# Altium integrated library Actel ProASIC3.IntLib: 465 symbols (part 1 of 68)
Pins are listed as number, name and electrical type; pins without a type are passive.

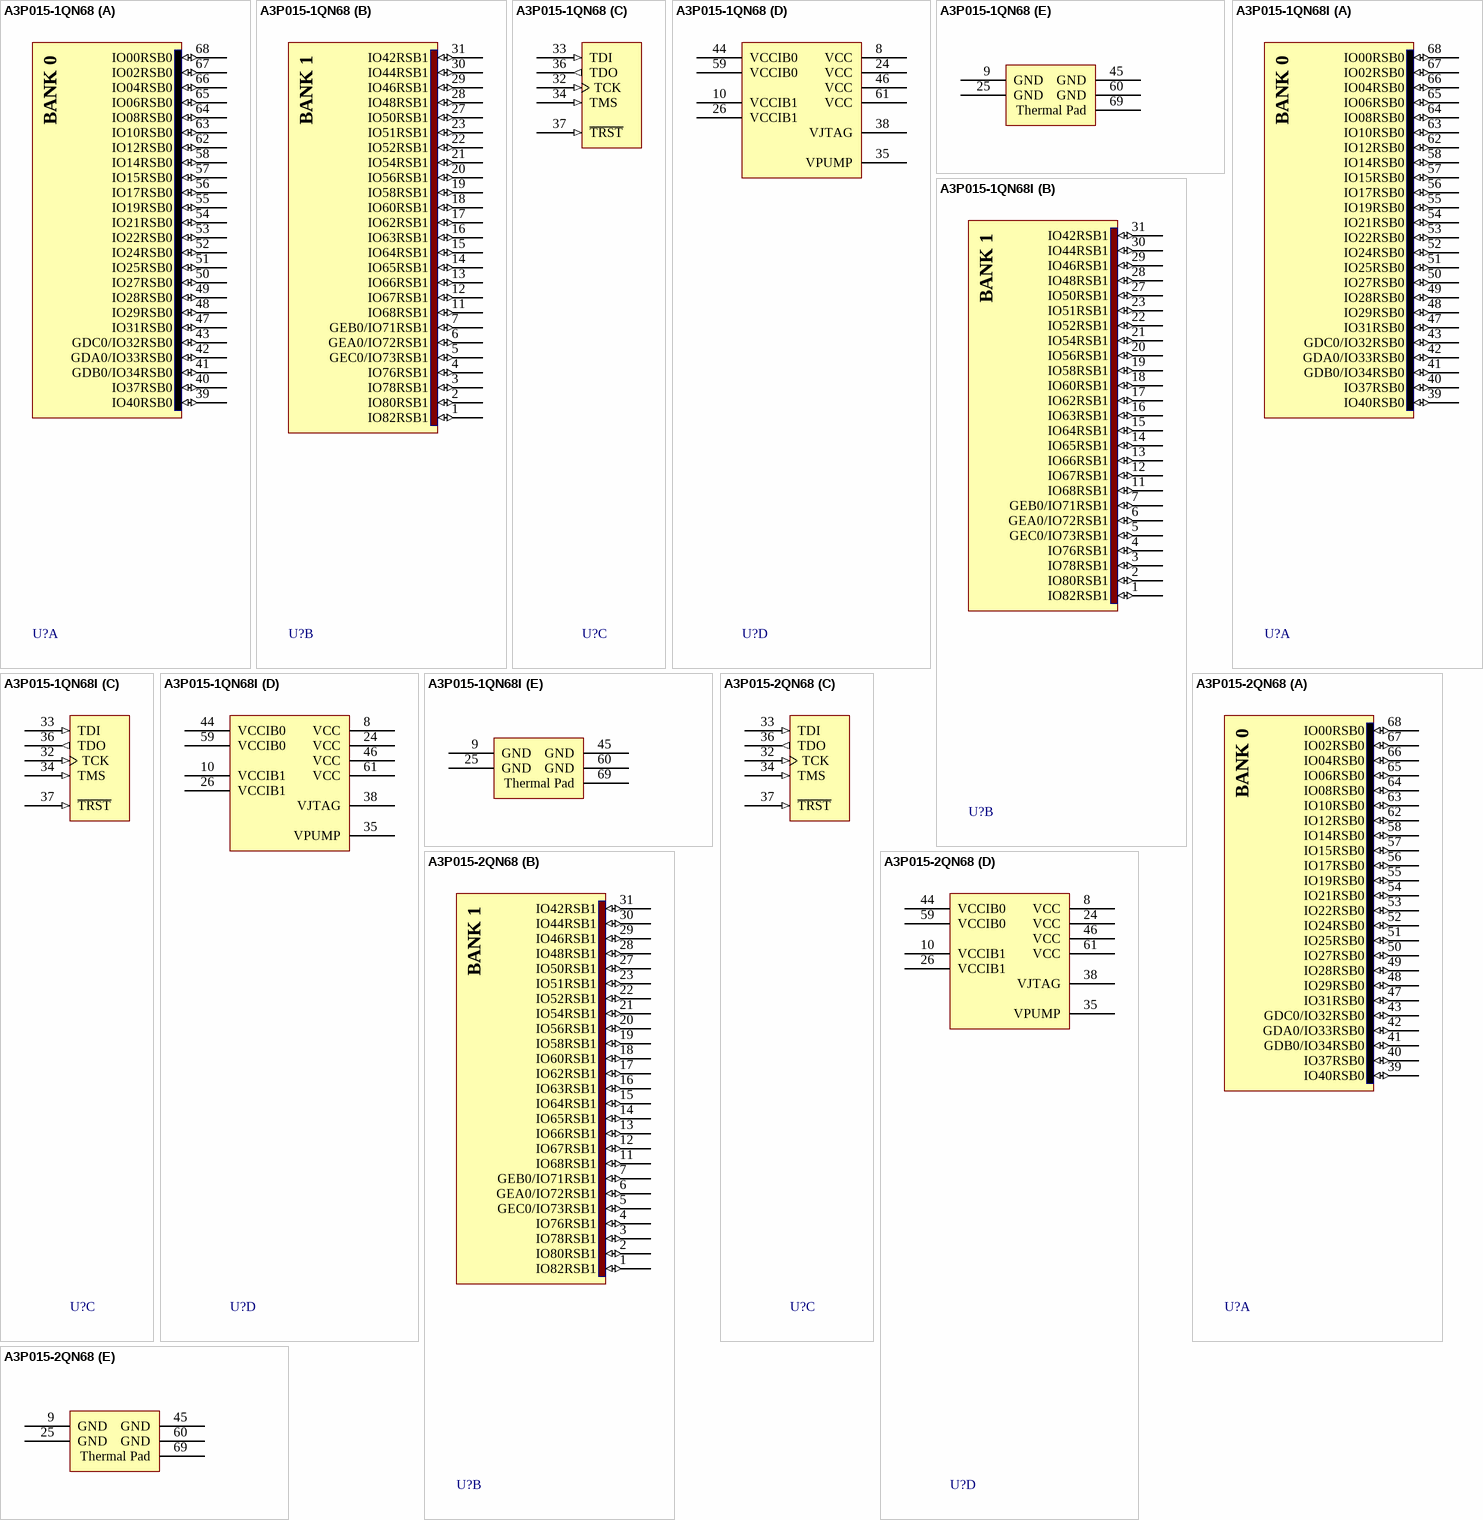
[diagram p0: symbols A3P015-1QN68 to A3P015-2QN68]

## A3P015-1QN68
designator U?
ProASIC3 Flash Family FPGA, 49 User IOs, 15K System Gates, 1 Kbit ProASIC3 Flash ROM, 68-Pin QFN, Commercial Grade; DatasheetVersion: v1.3, Oct-2009; PackageVersion: rev40, Jun-2011; PackageReference: QN68; PackageDescription: 68-Pin Quad Flat No-Lead 0.4 mm Pitch (QN68); Code_JEDEC: MO-220-VLLE-1; ComponentLink1Description: Manufacturer URL; ComponentLink1URL: http://www.actel.com/; ComponentLink2Description: ProASIC3 Datasheet; ComponentLink2URL: http://www.actel.com/documents/PA3_DS.pdf; ComponentLink3Description: Package Mechanical Drawings; ComponentLink3URL: http://www.actel.com/documents/PckgMechDrwngs.pdf; ComponentLink4Description: ProASIC3 Documents; ComponentLink4URL: http://www.actel.com/products/pa3/docs.aspx
footprint QN68_N (QFN, 68-Leads, Body 8x8mm, Pitch 0.4mm, Thermal Pad 3.1x3.1mm, IPC Medium Density)
footprint QN68_L (QFN, 68-Leads, Body 8x8mm, Pitch 0.4mm, Thermal Pad 3.1x3.1mm, IPC High Density)
footprint QN68_M (QFN, 68-Leads, Body 8x8mm, Pitch 0.4mm, Thermal Pad 3.1x3.1mm, IPC Low Density)
part A pins: 39 IO40RSB0 (io), 40 IO37RSB0 (io), 41 GDB0/IO34RSB0 (io), 42 GDA0/IO33RSB0 (io), 43 GDC0/IO32RSB0 (io), 47 IO31RSB0 (io), 48 IO29RSB0 (io), 49 IO28RSB0 (io), 50 IO27RSB0 (io), 51 IO25RSB0 (io), 52 IO24RSB0 (io), 53 IO22RSB0 (io), 54 IO21RSB0 (io), 55 IO19RSB0 (io), 56 IO17RSB0 (io), 57 IO15RSB0 (io), 58 IO14RSB0 (io), 62 IO12RSB0 (io), 63 IO10RSB0 (io), 64 IO08RSB0 (io), 65 IO06RSB0 (io), 66 IO04RSB0 (io), 67 IO02RSB0 (io), 68 IO00RSB0 (io)
part B pins: 1 IO82RSB1 (io), 2 IO80RSB1 (io), 3 IO78RSB1 (io), 4 IO76RSB1 (io), 5 GEC0/IO73RSB1 (io), 6 GEA0/IO72RSB1 (io), 7 GEB0/IO71RSB1 (io), 11 IO68RSB1 (io), 12 IO67RSB1 (io), 13 IO66RSB1 (io), 14 IO65RSB1 (io), 15 IO64RSB1 (io), 16 IO63RSB1 (io), 17 IO62RSB1 (io), 18 IO60RSB1 (io), 19 IO58RSB1 (io), 20 IO56RSB1 (io), 21 IO54RSB1 (io), 22 IO52RSB1 (io), 23 IO51RSB1 (io), 27 IO50RSB1 (io), 28 IO48RSB1 (io), 29 IO46RSB1 (io), 30 IO44RSB1 (io), 31 IO42RSB1 (io)
part C pins: 32 TCK (in), 33 TDI (in), 34 TMS (in), 36 TDO (out), 37 ~{TRST} (in)
part D pins: 8 VCC (power), 10 VCCIB1 (power), 24 VCC (power), 26 VCCIB1 (power), 35 VPUMP (power), 38 VJTAG (power), 44 VCCIB0 (power), 46 VCC (power), 59 VCCIB0 (power), 61 VCC (power)
part E pins: 9 GND (power), 25 GND (power), 45 GND (power), 60 GND (power), 69 Thermal Pad (power)
part A text: BANK 0
part B text: BANK 1

## A3P015-1QN68I
designator U?
ProASIC3 Flash Family FPGA, 49 User IOs, 15K System Gates, 1 Kbit ProASIC3 Flash ROM, 68-Pin QFN, Industrial Grade; DatasheetVersion: v1.3, Oct-2009; PackageVersion: rev40, Jun-2011; PackageReference: QN68; PackageDescription: 68-Pin Quad Flat No-Lead 0.4 mm Pitch (QN68); Code_JEDEC: MO-220-VLLE-1; ComponentLink1Description: Manufacturer URL; ComponentLink1URL: http://www.actel.com/; ComponentLink2Description: ProASIC3 Datasheet; ComponentLink2URL: http://www.actel.com/documents/PA3_DS.pdf; ComponentLink3Description: Package Mechanical Drawings; ComponentLink3URL: http://www.actel.com/documents/PckgMechDrwngs.pdf; ComponentLink4Description: ProASIC3 Documents; ComponentLink4URL: http://www.actel.com/products/pa3/docs.aspx
footprint QN68_N (QFN, 68-Leads, Body 8x8mm, Pitch 0.4mm, Thermal Pad 3.1x3.1mm, IPC Medium Density)
footprint QN68_L (QFN, 68-Leads, Body 8x8mm, Pitch 0.4mm, Thermal Pad 3.1x3.1mm, IPC High Density)
footprint QN68_M (QFN, 68-Leads, Body 8x8mm, Pitch 0.4mm, Thermal Pad 3.1x3.1mm, IPC Low Density)
part A pins: 39 IO40RSB0 (io), 40 IO37RSB0 (io), 41 GDB0/IO34RSB0 (io), 42 GDA0/IO33RSB0 (io), 43 GDC0/IO32RSB0 (io), 47 IO31RSB0 (io), 48 IO29RSB0 (io), 49 IO28RSB0 (io), 50 IO27RSB0 (io), 51 IO25RSB0 (io), 52 IO24RSB0 (io), 53 IO22RSB0 (io), 54 IO21RSB0 (io), 55 IO19RSB0 (io), 56 IO17RSB0 (io), 57 IO15RSB0 (io), 58 IO14RSB0 (io), 62 IO12RSB0 (io), 63 IO10RSB0 (io), 64 IO08RSB0 (io), 65 IO06RSB0 (io), 66 IO04RSB0 (io), 67 IO02RSB0 (io), 68 IO00RSB0 (io)
part B pins: 1 IO82RSB1 (io), 2 IO80RSB1 (io), 3 IO78RSB1 (io), 4 IO76RSB1 (io), 5 GEC0/IO73RSB1 (io), 6 GEA0/IO72RSB1 (io), 7 GEB0/IO71RSB1 (io), 11 IO68RSB1 (io), 12 IO67RSB1 (io), 13 IO66RSB1 (io), 14 IO65RSB1 (io), 15 IO64RSB1 (io), 16 IO63RSB1 (io), 17 IO62RSB1 (io), 18 IO60RSB1 (io), 19 IO58RSB1 (io), 20 IO56RSB1 (io), 21 IO54RSB1 (io), 22 IO52RSB1 (io), 23 IO51RSB1 (io), 27 IO50RSB1 (io), 28 IO48RSB1 (io), 29 IO46RSB1 (io), 30 IO44RSB1 (io), 31 IO42RSB1 (io)
part C pins: 32 TCK (in), 33 TDI (in), 34 TMS (in), 36 TDO (out), 37 ~{TRST} (in)
part D pins: 8 VCC (power), 10 VCCIB1 (power), 24 VCC (power), 26 VCCIB1 (power), 35 VPUMP (power), 38 VJTAG (power), 44 VCCIB0 (power), 46 VCC (power), 59 VCCIB0 (power), 61 VCC (power)
part E pins: 9 GND (power), 25 GND (power), 45 GND (power), 60 GND (power), 69 Thermal Pad (power)
part A text: BANK 0
part B text: BANK 1

## A3P015-2QN68
designator U?
ProASIC3 Flash Family FPGA, 49 User IOs, 15K System Gates, 1 Kbit ProASIC3 Flash ROM, 68-Pin QFN, Commercial Grade; DatasheetVersion: v1.3, Oct-2009; PackageVersion: rev40, Jun-2011; PackageReference: QN68; PackageDescription: 68-Pin Quad Flat No-Lead 0.4 mm Pitch (QN68); Code_JEDEC: MO-220-VLLE-1; ComponentLink1Description: Manufacturer URL; ComponentLink1URL: http://www.actel.com/; ComponentLink2Description: ProASIC3 Datasheet; ComponentLink2URL: http://www.actel.com/documents/PA3_DS.pdf; ComponentLink3Description: Package Mechanical Drawings; ComponentLink3URL: http://www.actel.com/documents/PckgMechDrwngs.pdf; ComponentLink4Description: ProASIC3 Documents; ComponentLink4URL: http://www.actel.com/products/pa3/docs.aspx
footprint QN68_N (QFN, 68-Leads, Body 8x8mm, Pitch 0.4mm, Thermal Pad 3.1x3.1mm, IPC Medium Density)
footprint QN68_L (QFN, 68-Leads, Body 8x8mm, Pitch 0.4mm, Thermal Pad 3.1x3.1mm, IPC High Density)
footprint QN68_M (QFN, 68-Leads, Body 8x8mm, Pitch 0.4mm, Thermal Pad 3.1x3.1mm, IPC Low Density)
part A pins: 39 IO40RSB0 (io), 40 IO37RSB0 (io), 41 GDB0/IO34RSB0 (io), 42 GDA0/IO33RSB0 (io), 43 GDC0/IO32RSB0 (io), 47 IO31RSB0 (io), 48 IO29RSB0 (io), 49 IO28RSB0 (io), 50 IO27RSB0 (io), 51 IO25RSB0 (io), 52 IO24RSB0 (io), 53 IO22RSB0 (io), 54 IO21RSB0 (io), 55 IO19RSB0 (io), 56 IO17RSB0 (io), 57 IO15RSB0 (io), 58 IO14RSB0 (io), 62 IO12RSB0 (io), 63 IO10RSB0 (io), 64 IO08RSB0 (io), 65 IO06RSB0 (io), 66 IO04RSB0 (io), 67 IO02RSB0 (io), 68 IO00RSB0 (io)
part B pins: 1 IO82RSB1 (io), 2 IO80RSB1 (io), 3 IO78RSB1 (io), 4 IO76RSB1 (io), 5 GEC0/IO73RSB1 (io), 6 GEA0/IO72RSB1 (io), 7 GEB0/IO71RSB1 (io), 11 IO68RSB1 (io), 12 IO67RSB1 (io), 13 IO66RSB1 (io), 14 IO65RSB1 (io), 15 IO64RSB1 (io), 16 IO63RSB1 (io), 17 IO62RSB1 (io), 18 IO60RSB1 (io), 19 IO58RSB1 (io), 20 IO56RSB1 (io), 21 IO54RSB1 (io), 22 IO52RSB1 (io), 23 IO51RSB1 (io), 27 IO50RSB1 (io), 28 IO48RSB1 (io), 29 IO46RSB1 (io), 30 IO44RSB1 (io), 31 IO42RSB1 (io)
part C pins: 32 TCK (in), 33 TDI (in), 34 TMS (in), 36 TDO (out), 37 ~{TRST} (in)
part D pins: 8 VCC (power), 10 VCCIB1 (power), 24 VCC (power), 26 VCCIB1 (power), 35 VPUMP (power), 38 VJTAG (power), 44 VCCIB0 (power), 46 VCC (power), 59 VCCIB0 (power), 61 VCC (power)
part E pins: 9 GND (power), 25 GND (power), 45 GND (power), 60 GND (power), 69 Thermal Pad (power)
part A text: BANK 0
part B text: BANK 1

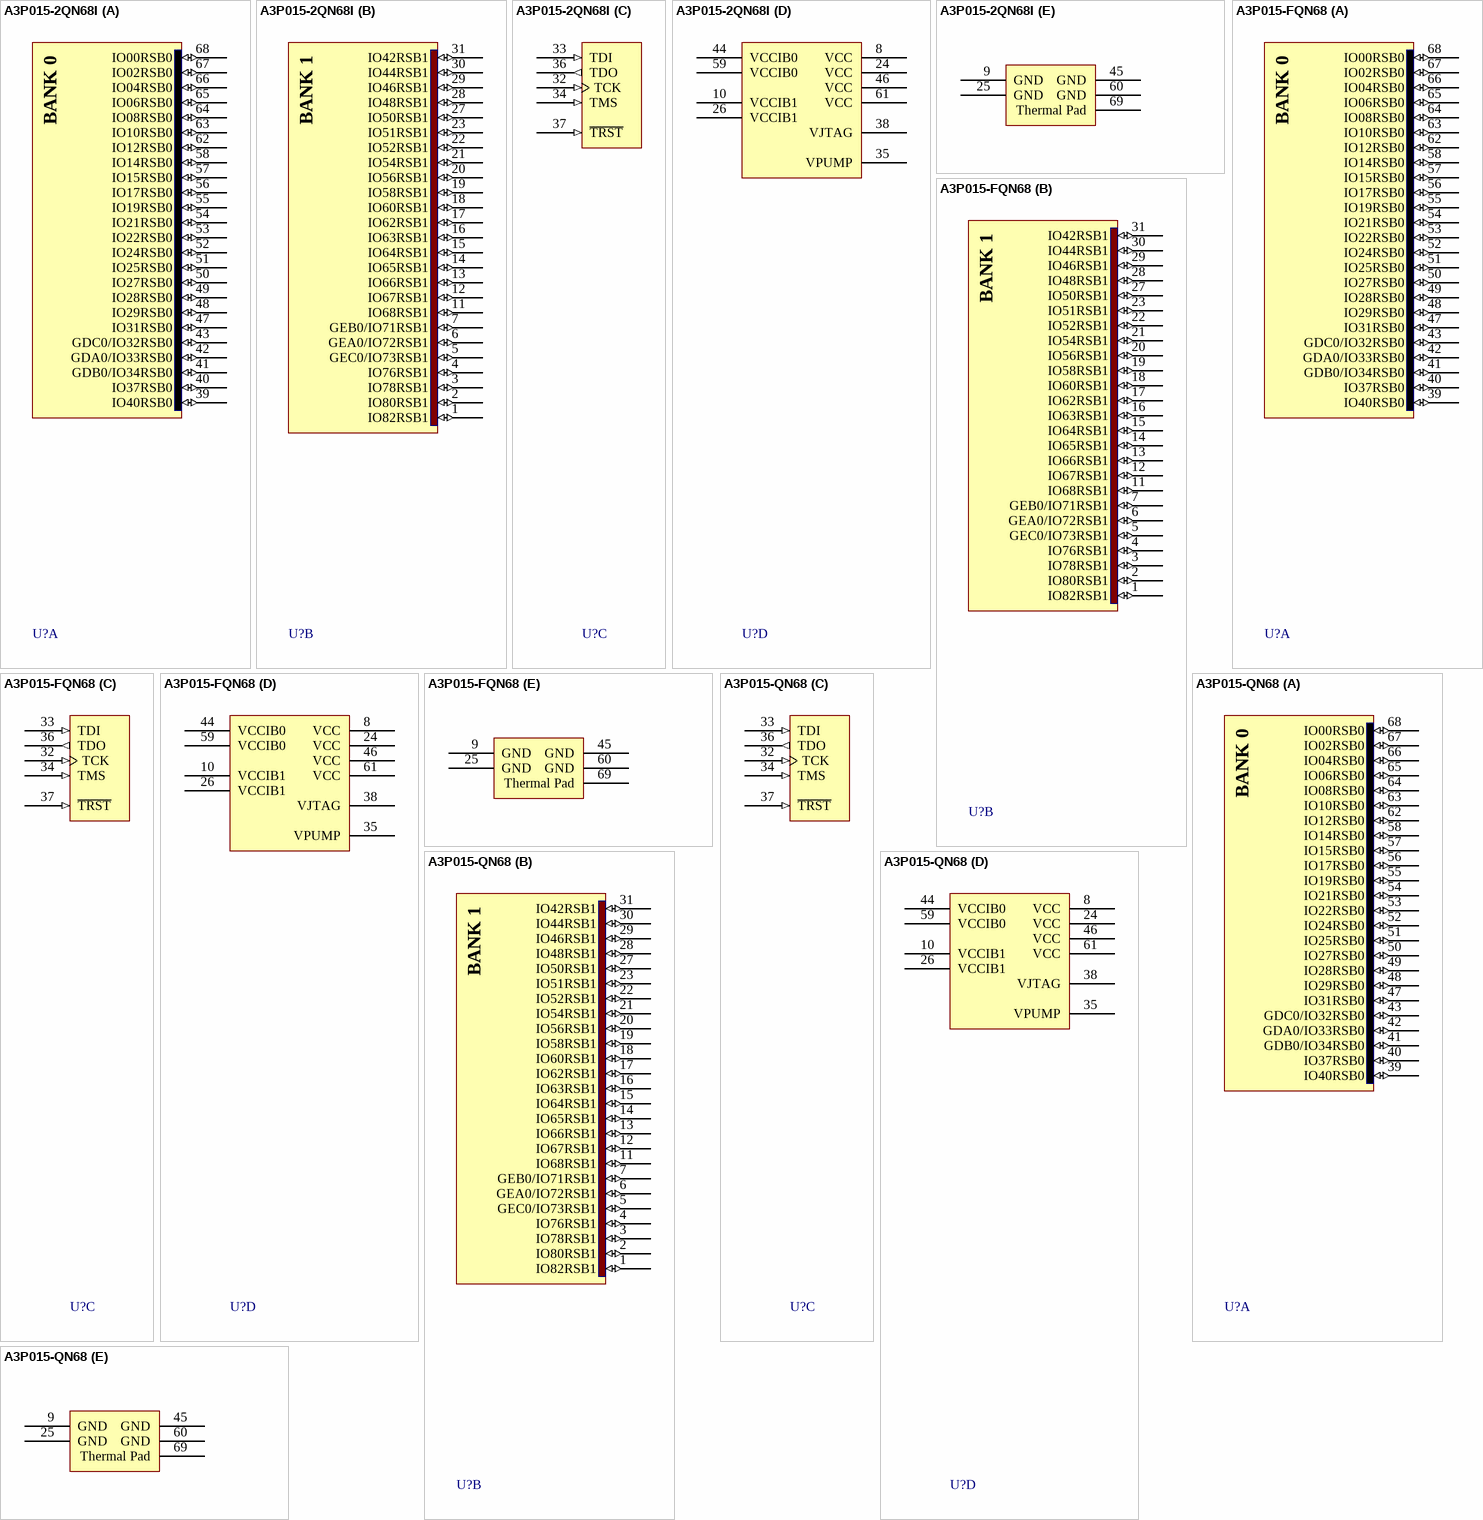
[diagram p1: symbols A3P015-2QN68I to A3P015-QN68]

## A3P015-2QN68I
designator U?
ProASIC3 Flash Family FPGA, 49 User IOs, 15K System Gates, 1 Kbit ProASIC3 Flash ROM, 68-Pin QFN, Industrial Grade; DatasheetVersion: v1.3, Oct-2009; PackageVersion: rev40, Jun-2011; PackageReference: QN68; PackageDescription: 68-Pin Quad Flat No-Lead 0.4 mm Pitch (QN68); Code_JEDEC: MO-220-VLLE-1; ComponentLink1Description: Manufacturer URL; ComponentLink1URL: http://www.actel.com/; ComponentLink2Description: ProASIC3 Datasheet; ComponentLink2URL: http://www.actel.com/documents/PA3_DS.pdf; ComponentLink3Description: Package Mechanical Drawings; ComponentLink3URL: http://www.actel.com/documents/PckgMechDrwngs.pdf; ComponentLink4Description: ProASIC3 Documents; ComponentLink4URL: http://www.actel.com/products/pa3/docs.aspx
footprint QN68_N (QFN, 68-Leads, Body 8x8mm, Pitch 0.4mm, Thermal Pad 3.1x3.1mm, IPC Medium Density)
footprint QN68_L (QFN, 68-Leads, Body 8x8mm, Pitch 0.4mm, Thermal Pad 3.1x3.1mm, IPC High Density)
footprint QN68_M (QFN, 68-Leads, Body 8x8mm, Pitch 0.4mm, Thermal Pad 3.1x3.1mm, IPC Low Density)
part A pins: 39 IO40RSB0 (io), 40 IO37RSB0 (io), 41 GDB0/IO34RSB0 (io), 42 GDA0/IO33RSB0 (io), 43 GDC0/IO32RSB0 (io), 47 IO31RSB0 (io), 48 IO29RSB0 (io), 49 IO28RSB0 (io), 50 IO27RSB0 (io), 51 IO25RSB0 (io), 52 IO24RSB0 (io), 53 IO22RSB0 (io), 54 IO21RSB0 (io), 55 IO19RSB0 (io), 56 IO17RSB0 (io), 57 IO15RSB0 (io), 58 IO14RSB0 (io), 62 IO12RSB0 (io), 63 IO10RSB0 (io), 64 IO08RSB0 (io), 65 IO06RSB0 (io), 66 IO04RSB0 (io), 67 IO02RSB0 (io), 68 IO00RSB0 (io)
part B pins: 1 IO82RSB1 (io), 2 IO80RSB1 (io), 3 IO78RSB1 (io), 4 IO76RSB1 (io), 5 GEC0/IO73RSB1 (io), 6 GEA0/IO72RSB1 (io), 7 GEB0/IO71RSB1 (io), 11 IO68RSB1 (io), 12 IO67RSB1 (io), 13 IO66RSB1 (io), 14 IO65RSB1 (io), 15 IO64RSB1 (io), 16 IO63RSB1 (io), 17 IO62RSB1 (io), 18 IO60RSB1 (io), 19 IO58RSB1 (io), 20 IO56RSB1 (io), 21 IO54RSB1 (io), 22 IO52RSB1 (io), 23 IO51RSB1 (io), 27 IO50RSB1 (io), 28 IO48RSB1 (io), 29 IO46RSB1 (io), 30 IO44RSB1 (io), 31 IO42RSB1 (io)
part C pins: 32 TCK (in), 33 TDI (in), 34 TMS (in), 36 TDO (out), 37 ~{TRST} (in)
part D pins: 8 VCC (power), 10 VCCIB1 (power), 24 VCC (power), 26 VCCIB1 (power), 35 VPUMP (power), 38 VJTAG (power), 44 VCCIB0 (power), 46 VCC (power), 59 VCCIB0 (power), 61 VCC (power)
part E pins: 9 GND (power), 25 GND (power), 45 GND (power), 60 GND (power), 69 Thermal Pad (power)
part A text: BANK 0
part B text: BANK 1

## A3P015-FQN68
designator U?
ProASIC3 Flash Family FPGA, 49 User IOs, 15K System Gates, 1 Kbit ProASIC3 Flash ROM, 68-Pin QFN, Commercial Grade; DatasheetVersion: v1.1, Feb-2009; PackageVersion: rev40, Jun-2011; PackageReference: QN68; PackageDescription: 68-Pin Quad Flat No-Lead 0.4 mm Pitch (QN68); Code_JEDEC: MO-220-VLLE-1; ComponentLink1Description: Manufacturer URL; ComponentLink1URL: http://www.actel.com/; ComponentLink2Description: ProASIC3 Datasheet; ComponentLink2URL: http://www.actel.com/documents/PA3_DS.pdf; ComponentLink3Description: Package Mechanical Drawings; ComponentLink3URL: http://www.actel.com/documents/PckgMechDrwngs.pdf; ComponentLink4Description: ProASIC3 Documents; ComponentLink4URL: http://www.actel.com/products/pa3/docs.aspx
footprint QN68_N (QFN, 68-Leads, Body 8x8mm, Pitch 0.4mm, Thermal Pad 3.1x3.1mm, IPC Medium Density)
footprint QN68_L (QFN, 68-Leads, Body 8x8mm, Pitch 0.4mm, Thermal Pad 3.1x3.1mm, IPC High Density)
footprint QN68_M (QFN, 68-Leads, Body 8x8mm, Pitch 0.4mm, Thermal Pad 3.1x3.1mm, IPC Low Density)
part A pins: 39 IO40RSB0 (io), 40 IO37RSB0 (io), 41 GDB0/IO34RSB0 (io), 42 GDA0/IO33RSB0 (io), 43 GDC0/IO32RSB0 (io), 47 IO31RSB0 (io), 48 IO29RSB0 (io), 49 IO28RSB0 (io), 50 IO27RSB0 (io), 51 IO25RSB0 (io), 52 IO24RSB0 (io), 53 IO22RSB0 (io), 54 IO21RSB0 (io), 55 IO19RSB0 (io), 56 IO17RSB0 (io), 57 IO15RSB0 (io), 58 IO14RSB0 (io), 62 IO12RSB0 (io), 63 IO10RSB0 (io), 64 IO08RSB0 (io), 65 IO06RSB0 (io), 66 IO04RSB0 (io), 67 IO02RSB0 (io), 68 IO00RSB0 (io)
part B pins: 1 IO82RSB1 (io), 2 IO80RSB1 (io), 3 IO78RSB1 (io), 4 IO76RSB1 (io), 5 GEC0/IO73RSB1 (io), 6 GEA0/IO72RSB1 (io), 7 GEB0/IO71RSB1 (io), 11 IO68RSB1 (io), 12 IO67RSB1 (io), 13 IO66RSB1 (io), 14 IO65RSB1 (io), 15 IO64RSB1 (io), 16 IO63RSB1 (io), 17 IO62RSB1 (io), 18 IO60RSB1 (io), 19 IO58RSB1 (io), 20 IO56RSB1 (io), 21 IO54RSB1 (io), 22 IO52RSB1 (io), 23 IO51RSB1 (io), 27 IO50RSB1 (io), 28 IO48RSB1 (io), 29 IO46RSB1 (io), 30 IO44RSB1 (io), 31 IO42RSB1 (io)
part C pins: 32 TCK (in), 33 TDI (in), 34 TMS (in), 36 TDO (out), 37 ~{TRST} (in)
part D pins: 8 VCC (power), 10 VCCIB1 (power), 24 VCC (power), 26 VCCIB1 (power), 35 VPUMP (power), 38 VJTAG (power), 44 VCCIB0 (power), 46 VCC (power), 59 VCCIB0 (power), 61 VCC (power)
part E pins: 9 GND (power), 25 GND (power), 45 GND (power), 60 GND (power), 69 Thermal Pad (power)
part A text: BANK 0
part B text: BANK 1

## A3P015-QN68
designator U?
ProASIC3 Flash Family FPGA, 49 User IOs, 15K System Gates, 1 Kbit ProASIC3 Flash ROM, 68-Pin QFN, Commercial Grade; DatasheetVersion: v1.3, Oct-2009; PackageVersion: rev40, Jun-2011; PackageReference: QN68; PackageDescription: 68-Pin Quad Flat No-Lead 0.4 mm Pitch (QN68); Code_JEDEC: MO-220-VLLE-1; ComponentLink1Description: Manufacturer URL; ComponentLink1URL: http://www.actel.com/; ComponentLink2Description: ProASIC3 Datasheet; ComponentLink2URL: http://www.actel.com/documents/PA3_DS.pdf; ComponentLink3Description: Package Mechanical Drawings; ComponentLink3URL: http://www.actel.com/documents/PckgMechDrwngs.pdf; ComponentLink4Description: ProASIC3 Documents; ComponentLink4URL: http://www.actel.com/products/pa3/docs.aspx
footprint QN68_N (QFN, 68-Leads, Body 8x8mm, Pitch 0.4mm, Thermal Pad 3.1x3.1mm, IPC Medium Density)
footprint QN68_L (QFN, 68-Leads, Body 8x8mm, Pitch 0.4mm, Thermal Pad 3.1x3.1mm, IPC High Density)
footprint QN68_M (QFN, 68-Leads, Body 8x8mm, Pitch 0.4mm, Thermal Pad 3.1x3.1mm, IPC Low Density)
part A pins: 39 IO40RSB0 (io), 40 IO37RSB0 (io), 41 GDB0/IO34RSB0 (io), 42 GDA0/IO33RSB0 (io), 43 GDC0/IO32RSB0 (io), 47 IO31RSB0 (io), 48 IO29RSB0 (io), 49 IO28RSB0 (io), 50 IO27RSB0 (io), 51 IO25RSB0 (io), 52 IO24RSB0 (io), 53 IO22RSB0 (io), 54 IO21RSB0 (io), 55 IO19RSB0 (io), 56 IO17RSB0 (io), 57 IO15RSB0 (io), 58 IO14RSB0 (io), 62 IO12RSB0 (io), 63 IO10RSB0 (io), 64 IO08RSB0 (io), 65 IO06RSB0 (io), 66 IO04RSB0 (io), 67 IO02RSB0 (io), 68 IO00RSB0 (io)
part B pins: 1 IO82RSB1 (io), 2 IO80RSB1 (io), 3 IO78RSB1 (io), 4 IO76RSB1 (io), 5 GEC0/IO73RSB1 (io), 6 GEA0/IO72RSB1 (io), 7 GEB0/IO71RSB1 (io), 11 IO68RSB1 (io), 12 IO67RSB1 (io), 13 IO66RSB1 (io), 14 IO65RSB1 (io), 15 IO64RSB1 (io), 16 IO63RSB1 (io), 17 IO62RSB1 (io), 18 IO60RSB1 (io), 19 IO58RSB1 (io), 20 IO56RSB1 (io), 21 IO54RSB1 (io), 22 IO52RSB1 (io), 23 IO51RSB1 (io), 27 IO50RSB1 (io), 28 IO48RSB1 (io), 29 IO46RSB1 (io), 30 IO44RSB1 (io), 31 IO42RSB1 (io)
part C pins: 32 TCK (in), 33 TDI (in), 34 TMS (in), 36 TDO (out), 37 ~{TRST} (in)
part D pins: 8 VCC (power), 10 VCCIB1 (power), 24 VCC (power), 26 VCCIB1 (power), 35 VPUMP (power), 38 VJTAG (power), 44 VCCIB0 (power), 46 VCC (power), 59 VCCIB0 (power), 61 VCC (power)
part E pins: 9 GND (power), 25 GND (power), 45 GND (power), 60 GND (power), 69 Thermal Pad (power)
part A text: BANK 0
part B text: BANK 1

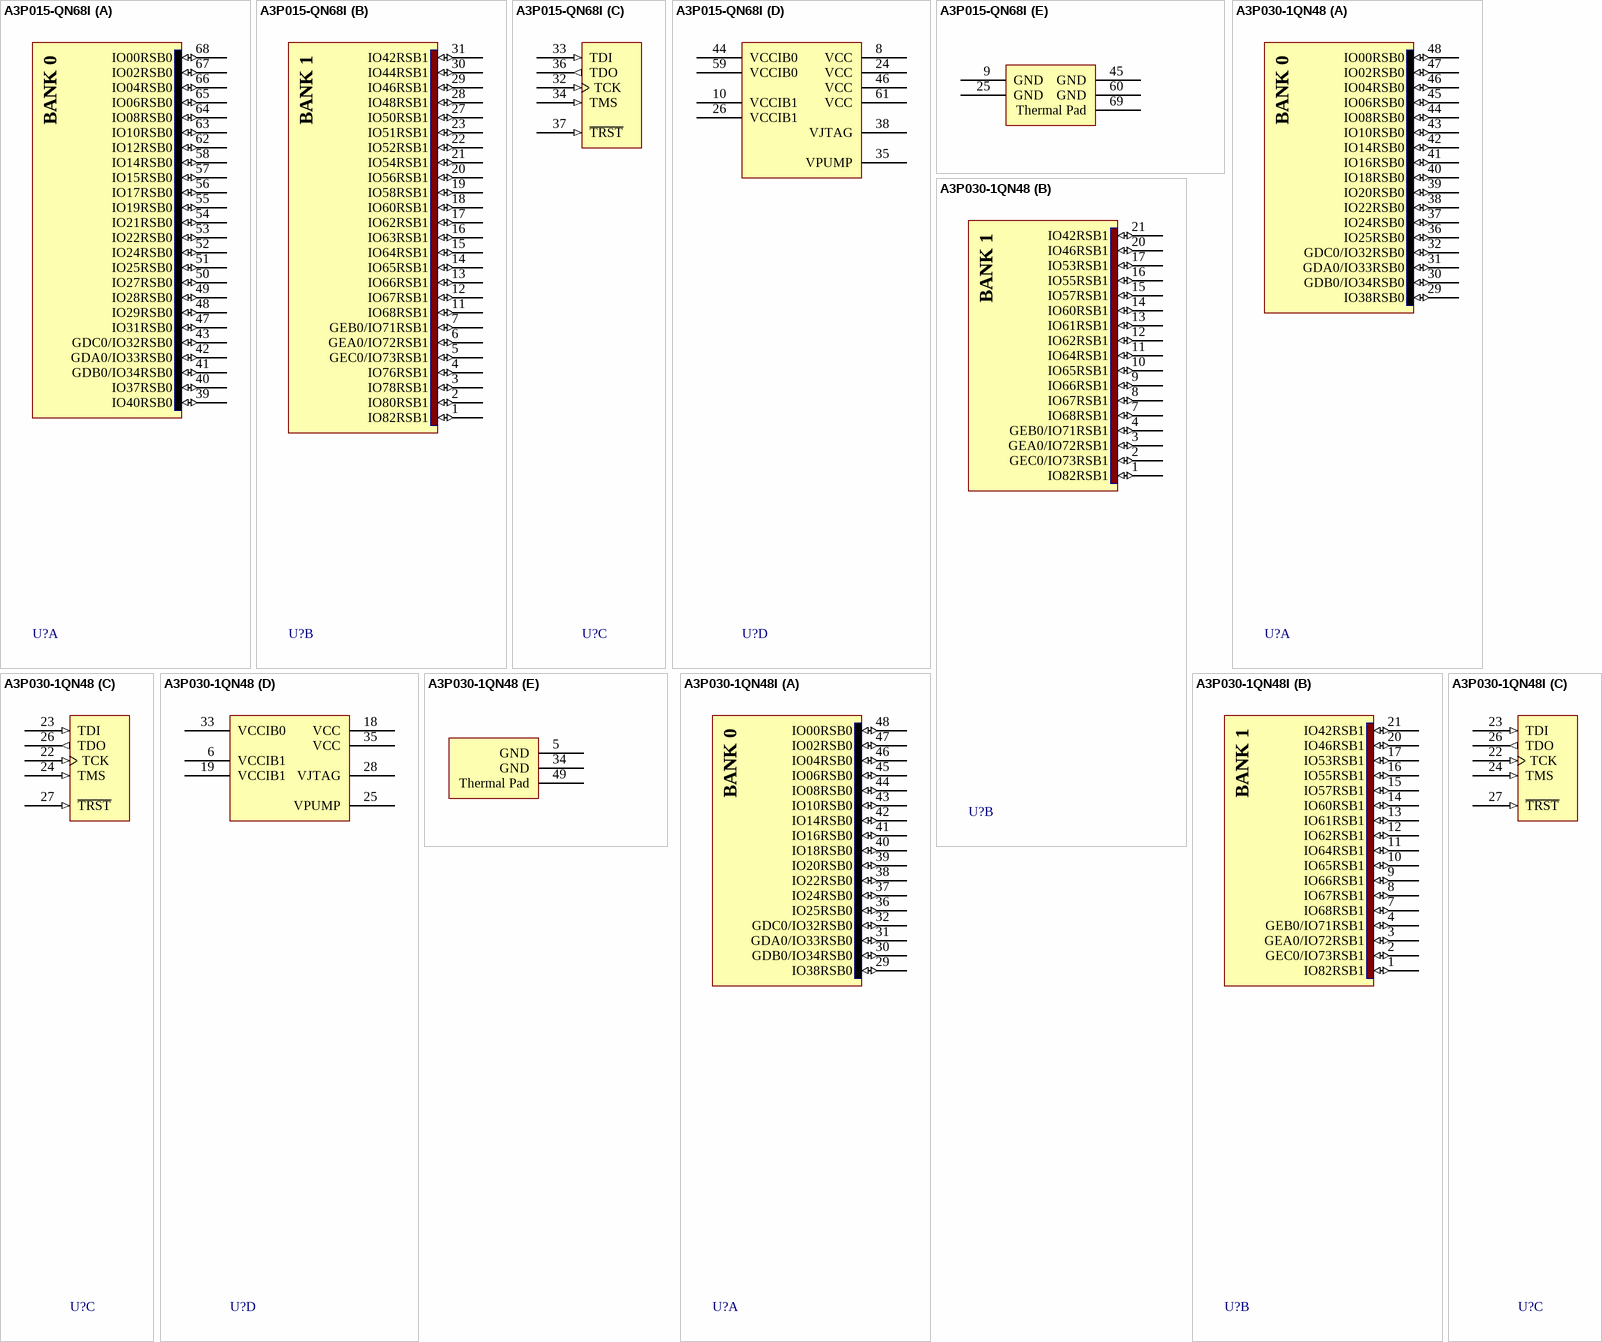
[diagram p2: symbols A3P015-QN68I to A3P030-1QN48I]

## A3P015-QN68I
designator U?
ProASIC3 Flash Family FPGA, 49 User IOs, 15K System Gates, 1 Kbit ProASIC3 Flash ROM, 68-Pin QFN, Industrial Grade; DatasheetVersion: v1.3, Oct-2009; PackageVersion: rev40, Jun-2011; PackageReference: QN68; PackageDescription: 68-Pin Quad Flat No-Lead 0.4 mm Pitch (QN68); Code_JEDEC: MO-220-VLLE-1; ComponentLink1Description: Manufacturer URL; ComponentLink1URL: http://www.actel.com/; ComponentLink2Description: ProASIC3 Datasheet; ComponentLink2URL: http://www.actel.com/documents/PA3_DS.pdf; ComponentLink3Description: Package Mechanical Drawings; ComponentLink3URL: http://www.actel.com/documents/PckgMechDrwngs.pdf; ComponentLink4Description: ProASIC3 Documents; ComponentLink4URL: http://www.actel.com/products/pa3/docs.aspx
footprint QN68_N (QFN, 68-Leads, Body 8x8mm, Pitch 0.4mm, Thermal Pad 3.1x3.1mm, IPC Medium Density)
footprint QN68_L (QFN, 68-Leads, Body 8x8mm, Pitch 0.4mm, Thermal Pad 3.1x3.1mm, IPC High Density)
footprint QN68_M (QFN, 68-Leads, Body 8x8mm, Pitch 0.4mm, Thermal Pad 3.1x3.1mm, IPC Low Density)
part A pins: 39 IO40RSB0 (io), 40 IO37RSB0 (io), 41 GDB0/IO34RSB0 (io), 42 GDA0/IO33RSB0 (io), 43 GDC0/IO32RSB0 (io), 47 IO31RSB0 (io), 48 IO29RSB0 (io), 49 IO28RSB0 (io), 50 IO27RSB0 (io), 51 IO25RSB0 (io), 52 IO24RSB0 (io), 53 IO22RSB0 (io), 54 IO21RSB0 (io), 55 IO19RSB0 (io), 56 IO17RSB0 (io), 57 IO15RSB0 (io), 58 IO14RSB0 (io), 62 IO12RSB0 (io), 63 IO10RSB0 (io), 64 IO08RSB0 (io), 65 IO06RSB0 (io), 66 IO04RSB0 (io), 67 IO02RSB0 (io), 68 IO00RSB0 (io)
part B pins: 1 IO82RSB1 (io), 2 IO80RSB1 (io), 3 IO78RSB1 (io), 4 IO76RSB1 (io), 5 GEC0/IO73RSB1 (io), 6 GEA0/IO72RSB1 (io), 7 GEB0/IO71RSB1 (io), 11 IO68RSB1 (io), 12 IO67RSB1 (io), 13 IO66RSB1 (io), 14 IO65RSB1 (io), 15 IO64RSB1 (io), 16 IO63RSB1 (io), 17 IO62RSB1 (io), 18 IO60RSB1 (io), 19 IO58RSB1 (io), 20 IO56RSB1 (io), 21 IO54RSB1 (io), 22 IO52RSB1 (io), 23 IO51RSB1 (io), 27 IO50RSB1 (io), 28 IO48RSB1 (io), 29 IO46RSB1 (io), 30 IO44RSB1 (io), 31 IO42RSB1 (io)
part C pins: 32 TCK (in), 33 TDI (in), 34 TMS (in), 36 TDO (out), 37 ~{TRST} (in)
part D pins: 8 VCC (power), 10 VCCIB1 (power), 24 VCC (power), 26 VCCIB1 (power), 35 VPUMP (power), 38 VJTAG (power), 44 VCCIB0 (power), 46 VCC (power), 59 VCCIB0 (power), 61 VCC (power)
part E pins: 9 GND (power), 25 GND (power), 45 GND (power), 60 GND (power), 69 Thermal Pad (power)
part A text: BANK 0
part B text: BANK 1

## A3P030-1QN48
designator U?
ProASIC3 Flash Family FPGA, 34 User IOs, 30K System Gates, 1 Kbit ProASIC3 Flash ROM, 48-Pin QFN, Commercial Grade; DatasheetVersion: v1.3, Oct-2009; PackageVersion: rev40, Jun-2011; PackageReference: QN48; PackageDescription: 48-Pin Quad Flat No-Lead 0.4 mm Pitch (QN48); Code_JEDEC: MO-220-VLLE-1; ComponentLink1Description: Manufacturer URL; ComponentLink1URL: http://www.actel.com/; ComponentLink2Description: ProASIC3 Datasheet; ComponentLink2URL: http://www.actel.com/documents/PA3_DS.pdf; ComponentLink3Description: Package Mechanical Drawings; ComponentLink3URL: http://www.actel.com/documents/PckgMechDrwngs.pdf; ComponentLink4Description: ProASIC3 Documents; ComponentLink4URL: http://www.actel.com/products/pa3/docs.aspx
footprint QN48_N (QFN, 48-Leads, Body 6x6mm, Pitch 0.4mm, Thermal Pad 4.8x4.8mm, IPC Medium Density)
footprint QN48_L (QFN, 48-Leads, Body 6x6mm, Pitch 0.4mm, Thermal Pad 4.8x4.8mm, IPC High Density)
footprint QN48_M (QFN, 48-Leads, Body 6x6mm, Pitch 0.4mm, Thermal Pad 4.8x4.8mm, IPC Low Density)
part A pins: 29 IO38RSB0 (io), 30 GDB0/IO34RSB0 (io), 31 GDA0/IO33RSB0 (io), 32 GDC0/IO32RSB0 (io), 36 IO25RSB0 (io), 37 IO24RSB0 (io), 38 IO22RSB0 (io), 39 IO20RSB0 (io), 40 IO18RSB0 (io), 41 IO16RSB0 (io), 42 IO14RSB0 (io), 43 IO10RSB0 (io), 44 IO08RSB0 (io), 45 IO06RSB0 (io), 46 IO04RSB0 (io), 47 IO02RSB0 (io), 48 IO00RSB0 (io)
part B pins: 1 IO82RSB1 (io), 2 GEC0/IO73RSB1 (io), 3 GEA0/IO72RSB1 (io), 4 GEB0/IO71RSB1 (io), 7 IO68RSB1 (io), 8 IO67RSB1 (io), 9 IO66RSB1 (io), 10 IO65RSB1 (io), 11 IO64RSB1 (io), 12 IO62RSB1 (io), 13 IO61RSB1 (io), 14 IO60RSB1 (io), 15 IO57RSB1 (io), 16 IO55RSB1 (io), 17 IO53RSB1 (io), 20 IO46RSB1 (io), 21 IO42RSB1 (io)
part C pins: 22 TCK (in), 23 TDI (in), 24 TMS (in), 26 TDO (out), 27 ~{TRST} (in)
part D pins: 6 VCCIB1 (power), 18 VCC (power), 19 VCCIB1 (power), 25 VPUMP (power), 28 VJTAG (power), 33 VCCIB0 (power), 35 VCC (power)
part E pins: 5 GND (power), 34 GND (power), 49 Thermal Pad (power)
part A text: BANK 0
part B text: BANK 1

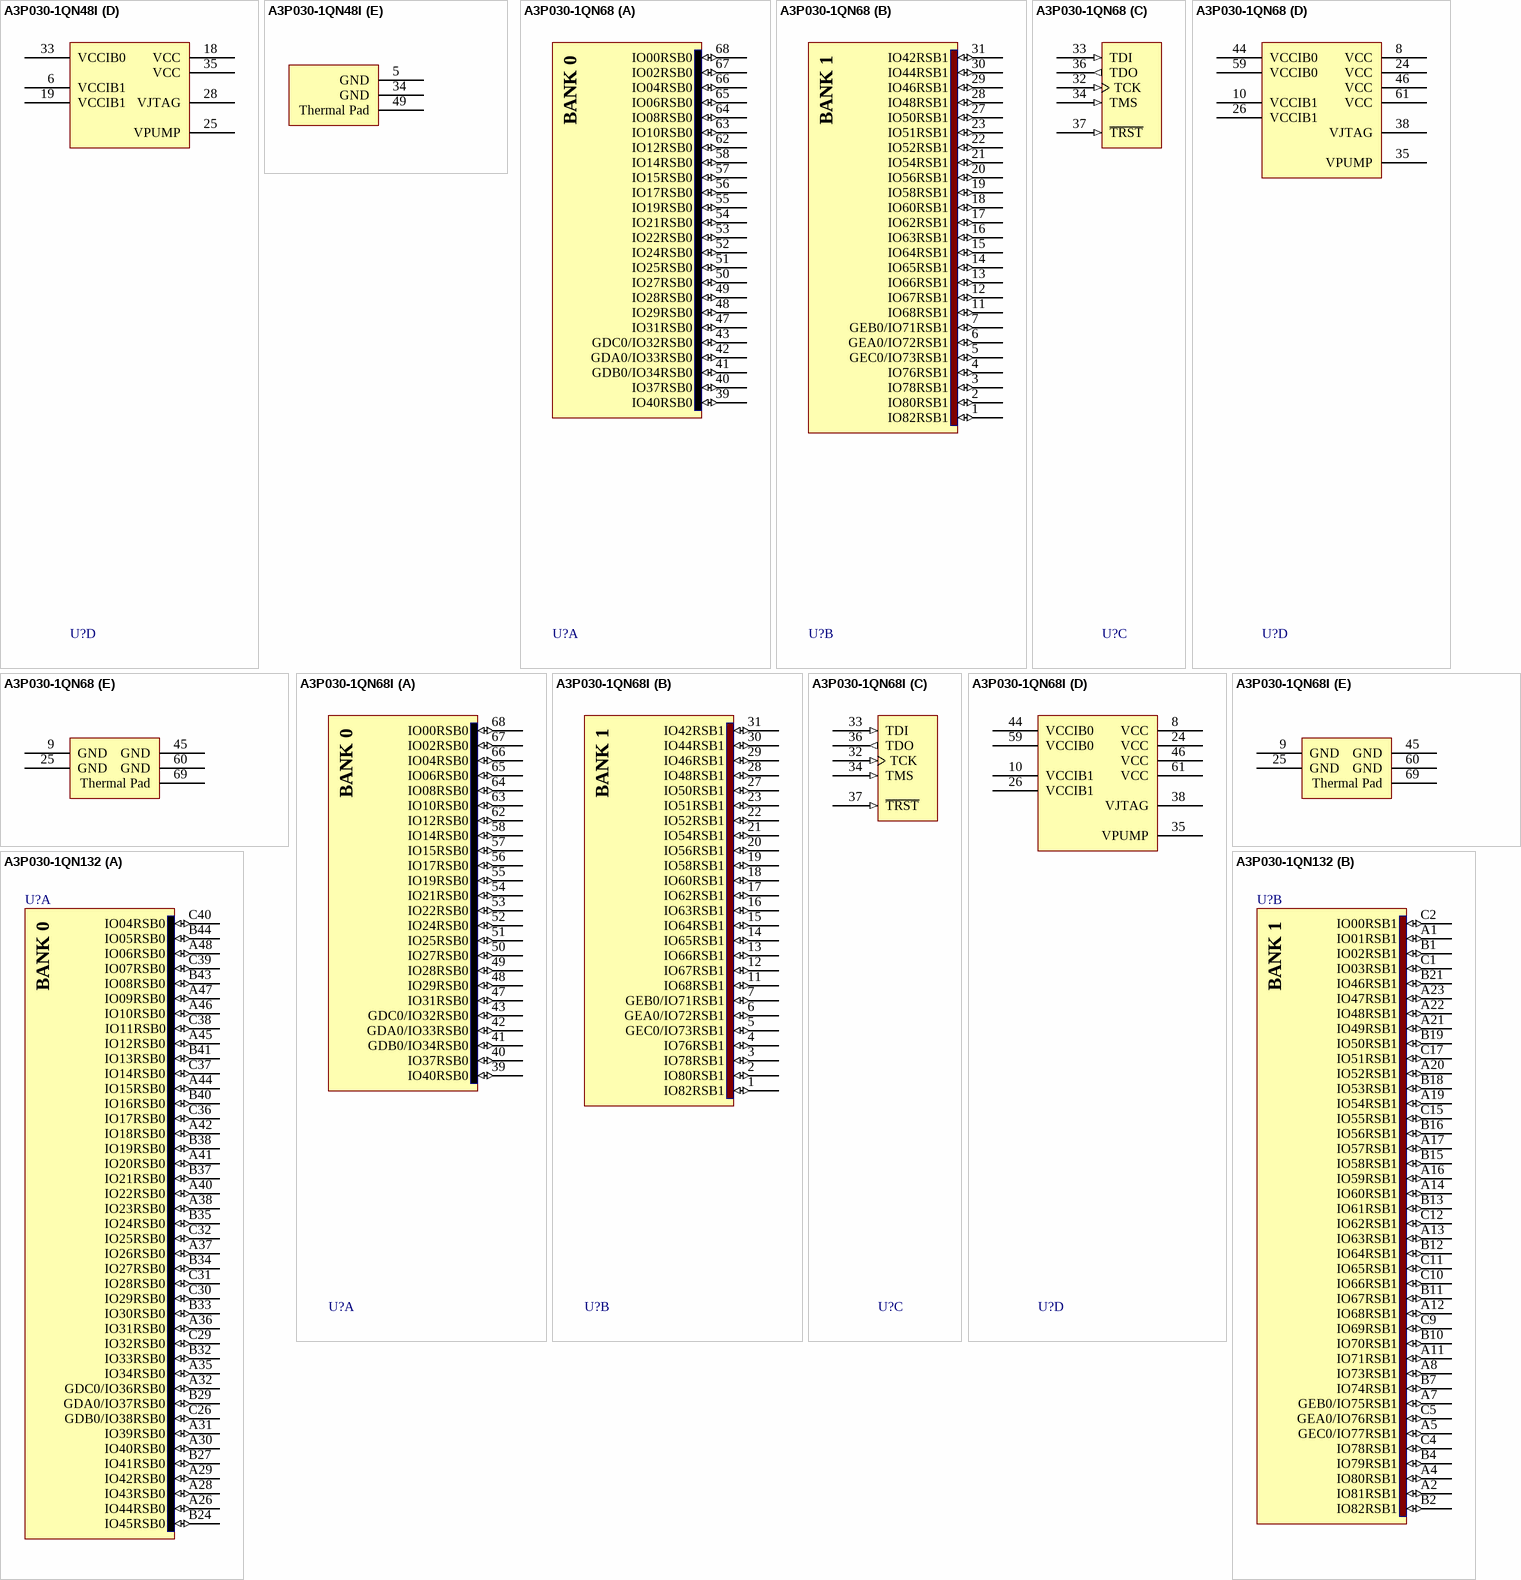
[diagram p3: symbols A3P030-1QN48I to A3P030-1QN132]

## A3P030-1QN48I
designator U?
ProASIC3 Flash Family FPGA, 34 User IOs, 30K System Gates, 1 Kbit ProASIC3 Flash ROM, 48-Pin QFN, Industrial Grade; DatasheetVersion: v1.3, Oct-2009; PackageVersion: rev40, Jun-2011; PackageReference: QN48; PackageDescription: 48-Pin Quad Flat No-Lead 0.4 mm Pitch (QN48); Code_JEDEC: MO-220-VLLE-1; ComponentLink1Description: Manufacturer URL; ComponentLink1URL: http://www.actel.com/; ComponentLink2Description: ProASIC3 Datasheet; ComponentLink2URL: http://www.actel.com/documents/PA3_DS.pdf; ComponentLink3Description: Package Mechanical Drawings; ComponentLink3URL: http://www.actel.com/documents/PckgMechDrwngs.pdf; ComponentLink4Description: ProASIC3 Documents; ComponentLink4URL: http://www.actel.com/products/pa3/docs.aspx
footprint QN48_N (QFN, 48-Leads, Body 6x6mm, Pitch 0.4mm, Thermal Pad 4.8x4.8mm, IPC Medium Density)
footprint QN48_L (QFN, 48-Leads, Body 6x6mm, Pitch 0.4mm, Thermal Pad 4.8x4.8mm, IPC High Density)
footprint QN48_M (QFN, 48-Leads, Body 6x6mm, Pitch 0.4mm, Thermal Pad 4.8x4.8mm, IPC Low Density)
part A pins: 29 IO38RSB0 (io), 30 GDB0/IO34RSB0 (io), 31 GDA0/IO33RSB0 (io), 32 GDC0/IO32RSB0 (io), 36 IO25RSB0 (io), 37 IO24RSB0 (io), 38 IO22RSB0 (io), 39 IO20RSB0 (io), 40 IO18RSB0 (io), 41 IO16RSB0 (io), 42 IO14RSB0 (io), 43 IO10RSB0 (io), 44 IO08RSB0 (io), 45 IO06RSB0 (io), 46 IO04RSB0 (io), 47 IO02RSB0 (io), 48 IO00RSB0 (io)
part B pins: 1 IO82RSB1 (io), 2 GEC0/IO73RSB1 (io), 3 GEA0/IO72RSB1 (io), 4 GEB0/IO71RSB1 (io), 7 IO68RSB1 (io), 8 IO67RSB1 (io), 9 IO66RSB1 (io), 10 IO65RSB1 (io), 11 IO64RSB1 (io), 12 IO62RSB1 (io), 13 IO61RSB1 (io), 14 IO60RSB1 (io), 15 IO57RSB1 (io), 16 IO55RSB1 (io), 17 IO53RSB1 (io), 20 IO46RSB1 (io), 21 IO42RSB1 (io)
part C pins: 22 TCK (in), 23 TDI (in), 24 TMS (in), 26 TDO (out), 27 ~{TRST} (in)
part D pins: 6 VCCIB1 (power), 18 VCC (power), 19 VCCIB1 (power), 25 VPUMP (power), 28 VJTAG (power), 33 VCCIB0 (power), 35 VCC (power)
part E pins: 5 GND (power), 34 GND (power), 49 Thermal Pad (power)
part A text: BANK 0
part B text: BANK 1

## A3P030-1QN68
designator U?
ProASIC3 Flash Family FPGA, 49 User IOs, 30K System Gates, 1 Kbit ProASIC3 Flash ROM, 68-Pin QFN, Commercial Grade; DatasheetVersion: v1.3, Oct-2009; PackageVersion: rev40, Jun-2011; PackageReference: QN68; PackageDescription: 68-Pin Quad Flat No-Lead 0.4 mm Pitch (QN68); Code_JEDEC: MO-220-VLLE-1; ComponentLink1Description: Manufacturer URL; ComponentLink1URL: http://www.actel.com/; ComponentLink2Description: ProASIC3 Datasheet; ComponentLink2URL: http://www.actel.com/documents/PA3_DS.pdf; ComponentLink3Description: Package Mechanical Drawings; ComponentLink3URL: http://www.actel.com/documents/PckgMechDrwngs.pdf; ComponentLink4Description: ProASIC3 Documents; ComponentLink4URL: http://www.actel.com/products/pa3/docs.aspx
footprint QN68_N (QFN, 68-Leads, Body 8x8mm, Pitch 0.4mm, Thermal Pad 3.1x3.1mm, IPC Medium Density)
footprint QN68_L (QFN, 68-Leads, Body 8x8mm, Pitch 0.4mm, Thermal Pad 3.1x3.1mm, IPC High Density)
footprint QN68_M (QFN, 68-Leads, Body 8x8mm, Pitch 0.4mm, Thermal Pad 3.1x3.1mm, IPC Low Density)
part A pins: 39 IO40RSB0 (io), 40 IO37RSB0 (io), 41 GDB0/IO34RSB0 (io), 42 GDA0/IO33RSB0 (io), 43 GDC0/IO32RSB0 (io), 47 IO31RSB0 (io), 48 IO29RSB0 (io), 49 IO28RSB0 (io), 50 IO27RSB0 (io), 51 IO25RSB0 (io), 52 IO24RSB0 (io), 53 IO22RSB0 (io), 54 IO21RSB0 (io), 55 IO19RSB0 (io), 56 IO17RSB0 (io), 57 IO15RSB0 (io), 58 IO14RSB0 (io), 62 IO12RSB0 (io), 63 IO10RSB0 (io), 64 IO08RSB0 (io), 65 IO06RSB0 (io), 66 IO04RSB0 (io), 67 IO02RSB0 (io), 68 IO00RSB0 (io)
part B pins: 1 IO82RSB1 (io), 2 IO80RSB1 (io), 3 IO78RSB1 (io), 4 IO76RSB1 (io), 5 GEC0/IO73RSB1 (io), 6 GEA0/IO72RSB1 (io), 7 GEB0/IO71RSB1 (io), 11 IO68RSB1 (io), 12 IO67RSB1 (io), 13 IO66RSB1 (io), 14 IO65RSB1 (io), 15 IO64RSB1 (io), 16 IO63RSB1 (io), 17 IO62RSB1 (io), 18 IO60RSB1 (io), 19 IO58RSB1 (io), 20 IO56RSB1 (io), 21 IO54RSB1 (io), 22 IO52RSB1 (io), 23 IO51RSB1 (io), 27 IO50RSB1 (io), 28 IO48RSB1 (io), 29 IO46RSB1 (io), 30 IO44RSB1 (io), 31 IO42RSB1 (io)
part C pins: 32 TCK (in), 33 TDI (in), 34 TMS (in), 36 TDO (out), 37 ~{TRST} (in)
part D pins: 8 VCC (power), 10 VCCIB1 (power), 24 VCC (power), 26 VCCIB1 (power), 35 VPUMP (power), 38 VJTAG (power), 44 VCCIB0 (power), 46 VCC (power), 59 VCCIB0 (power), 61 VCC (power)
part E pins: 9 GND (power), 25 GND (power), 45 GND (power), 60 GND (power), 69 Thermal Pad (power)
part A text: BANK 0
part B text: BANK 1

## A3P030-1QN68I
designator U?
ProASIC3 Flash Family FPGA, 49 User IOs, 30K System Gates, 1 Kbit ProASIC3 Flash ROM, 68-Pin QFN, Industrial Grade; DatasheetVersion: v1.3, Oct-2009; PackageVersion: rev40, Jun-2011; PackageReference: QN68; PackageDescription: 68-Pin Quad Flat No-Lead 0.4 mm Pitch (QN68); Code_JEDEC: MO-220-VLLE-1; ComponentLink1Description: Manufacturer URL; ComponentLink1URL: http://www.actel.com/; ComponentLink2Description: ProASIC3 Datasheet; ComponentLink2URL: http://www.actel.com/documents/PA3_DS.pdf; ComponentLink3Description: Package Mechanical Drawings; ComponentLink3URL: http://www.actel.com/documents/PckgMechDrwngs.pdf; ComponentLink4Description: ProASIC3 Documents; ComponentLink4URL: http://www.actel.com/products/pa3/docs.aspx
footprint QN68_N (QFN, 68-Leads, Body 8x8mm, Pitch 0.4mm, Thermal Pad 3.1x3.1mm, IPC Medium Density)
footprint QN68_L (QFN, 68-Leads, Body 8x8mm, Pitch 0.4mm, Thermal Pad 3.1x3.1mm, IPC High Density)
footprint QN68_M (QFN, 68-Leads, Body 8x8mm, Pitch 0.4mm, Thermal Pad 3.1x3.1mm, IPC Low Density)
part A pins: 39 IO40RSB0 (io), 40 IO37RSB0 (io), 41 GDB0/IO34RSB0 (io), 42 GDA0/IO33RSB0 (io), 43 GDC0/IO32RSB0 (io), 47 IO31RSB0 (io), 48 IO29RSB0 (io), 49 IO28RSB0 (io), 50 IO27RSB0 (io), 51 IO25RSB0 (io), 52 IO24RSB0 (io), 53 IO22RSB0 (io), 54 IO21RSB0 (io), 55 IO19RSB0 (io), 56 IO17RSB0 (io), 57 IO15RSB0 (io), 58 IO14RSB0 (io), 62 IO12RSB0 (io), 63 IO10RSB0 (io), 64 IO08RSB0 (io), 65 IO06RSB0 (io), 66 IO04RSB0 (io), 67 IO02RSB0 (io), 68 IO00RSB0 (io)
part B pins: 1 IO82RSB1 (io), 2 IO80RSB1 (io), 3 IO78RSB1 (io), 4 IO76RSB1 (io), 5 GEC0/IO73RSB1 (io), 6 GEA0/IO72RSB1 (io), 7 GEB0/IO71RSB1 (io), 11 IO68RSB1 (io), 12 IO67RSB1 (io), 13 IO66RSB1 (io), 14 IO65RSB1 (io), 15 IO64RSB1 (io), 16 IO63RSB1 (io), 17 IO62RSB1 (io), 18 IO60RSB1 (io), 19 IO58RSB1 (io), 20 IO56RSB1 (io), 21 IO54RSB1 (io), 22 IO52RSB1 (io), 23 IO51RSB1 (io), 27 IO50RSB1 (io), 28 IO48RSB1 (io), 29 IO46RSB1 (io), 30 IO44RSB1 (io), 31 IO42RSB1 (io)
part C pins: 32 TCK (in), 33 TDI (in), 34 TMS (in), 36 TDO (out), 37 ~{TRST} (in)
part D pins: 8 VCC (power), 10 VCCIB1 (power), 24 VCC (power), 26 VCCIB1 (power), 35 VPUMP (power), 38 VJTAG (power), 44 VCCIB0 (power), 46 VCC (power), 59 VCCIB0 (power), 61 VCC (power)
part E pins: 9 GND (power), 25 GND (power), 45 GND (power), 60 GND (power), 69 Thermal Pad (power)
part A text: BANK 0
part B text: BANK 1

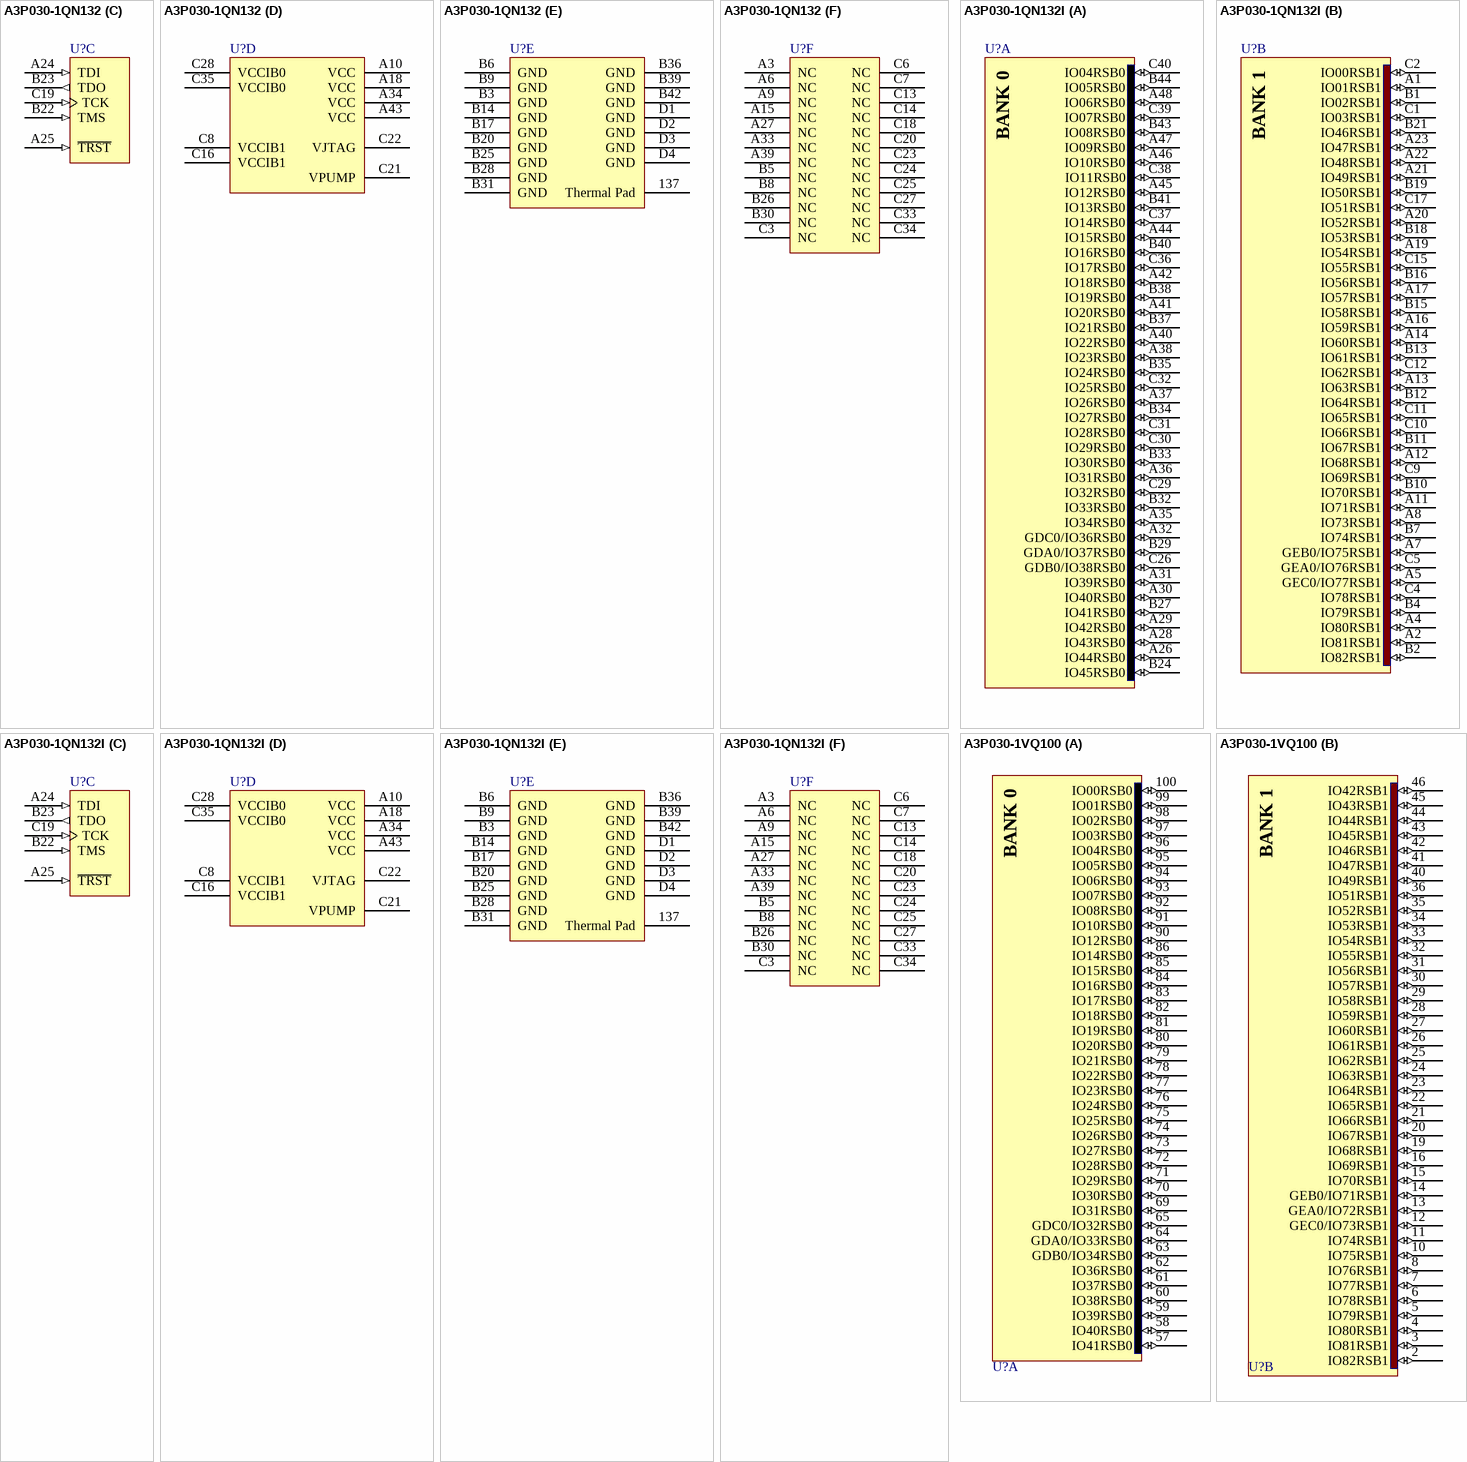
[diagram p4: symbols A3P030-1QN132 to A3P030-1VQ100]

## A3P030-1QN132
designator U?
ProASIC3 Flash Family FPGA, 81 User IOs, 30K System Gates, 1 Kbit ProASIC3 Flash ROM, 132-Pin QFN, Commercial Grade; DatasheetVersion: v1.3, Oct-2009; PackageVersion: ver11.2, Nov-2009; PackageReference: QN132; PackageDescription: 132-Pin Quad Flat Pack No-Leads (QN132); ComponentLink1Description: Manufacturer URL; ComponentLink1URL: http://www.actel.com/; ComponentLink2Description: ProASIC3 Datasheet; ComponentLink2URL: http://www.actel.com/documents/PA3_DS.pdf; ComponentLink3Description: Package Mechanical Drawings; ComponentLink3URL: http://www.actel.com/documents/PckgMechDrwngs.pdf; ComponentLink4Description: ProASIC3 Documents; ComponentLink4URL: http://www.actel.com/products/pa3/docs.aspx
footprint QN132 (QFN, 137-Leads, Body 8x8mm, Pitch 0.5mm, Thermal Pad 4.7x4.7mm)
part A pins: A26 IO44RSB0 (io), A28 IO43RSB0 (io), A29 IO42RSB0 (io), A30 IO40RSB0 (io), A31 IO39RSB0 (io), A32 GDC0/IO36RSB0 (io), A35 IO34RSB0 (io), A36 IO31RSB0 (io), A37 IO26RSB0 (io), A38 IO23RSB0 (io), A40 IO22RSB0 (io), A41 IO20RSB0 (io), A42 IO18RSB0 (io), A44 IO15RSB0 (io), A45 IO12RSB0 (io), A46 IO10RSB0 (io), A47 IO09RSB0 (io), A48 IO06RSB0 (io), B24 IO45RSB0 (io), B27 IO41RSB0 (io), B29 GDA0/IO37RSB0 (io), B32 IO33RSB0 (io), B33 IO30RSB0 (io), B34 IO27RSB0 (io), B35 IO24RSB0 (io), B37 IO21RSB0 (io), B38 IO19RSB0 (io), B40 IO16RSB0 (io), B41 IO13RSB0 (io), B43 IO08RSB0 (io), B44 IO05RSB0 (io), C26 GDB0/IO38RSB0 (io), C29 IO32RSB0 (io), C30 IO29RSB0 (io), C31 IO28RSB0 (io), C32 IO25RSB0 (io), C36 IO17RSB0 (io), C37 IO14RSB0 (io), C38 IO11RSB0 (io), C39 IO07RSB0 (io), C40 IO04RSB0 (io)
part B pins: A1 IO01RSB1 (io), A2 IO81RSB1 (io), A4 IO80RSB1 (io), A5 GEC0/IO77RSB1 (io), A7 GEB0/IO75RSB1 (io), A8 IO73RSB1 (io), A11 IO71RSB1 (io), A12 IO68RSB1 (io), A13 IO63RSB1 (io), A14 IO60RSB1 (io), A16 IO59RSB1 (io), A17 IO57RSB1 (io), A19 IO54RSB1 (io), A20 IO52RSB1 (io), A21 IO49RSB1 (io), A22 IO48RSB1 (io), A23 IO47RSB1 (io), B1 IO02RSB1 (io), B2 IO82RSB1 (io), B4 IO79RSB1 (io), B7 IO74RSB1 (io), B10 IO70RSB1 (io), B11 IO67RSB1 (io), B12 IO64RSB1 (io), B13 IO61RSB1 (io), B15 IO58RSB1 (io), B16 IO56RSB1 (io), B18 IO53RSB1 (io), B19 IO50RSB1 (io), B21 IO46RSB1 (io), C1 IO03RSB1 (io), C2 IO00RSB1 (io), C4 IO78RSB1 (io), C5 GEA0/IO76RSB1 (io), C9 IO69RSB1 (io), C10 IO66RSB1 (io), C11 IO65RSB1 (io), C12 IO62RSB1 (io), C15 IO55RSB1 (io), C17 IO51RSB1 (io)
part C pins: A24 TDI (in), A25 ~{TRST} (in), B22 TMS (in), B23 TDO (out), C19 TCK (in)
part D pins: A10 VCC (power), A18 VCC (power), A34 VCC (power), A43 VCC (power), C8 VCCIB1 (power), C16 VCCIB1 (power), C21 VPUMP (power), C22 VJTAG (power), C28 VCCIB0 (power), C35 VCCIB0 (power)
part E pins: 137 Thermal Pad (power), B3 GND (power), B6 GND (power), B9 GND (power), B14 GND (power), B17 GND (power), B20 GND (power), B25 GND (power), B28 GND (power), B31 GND (power), B36 GND (power), B39 GND (power), B42 GND (power), D1 GND (power), D2 GND (power), D3 GND (power), D4 GND (power)
part F pins: A3 NC, A6 NC, A9 NC, A15 NC, A27 NC, A33 NC, A39 NC, B5 NC, B8 NC, B26 NC, B30 NC, C3 NC, C6 NC, C7 NC, C13 NC, C14 NC, C18 NC, C20 NC, C23 NC, C24 NC, C25 NC, C27 NC, C33 NC, C34 NC
part A text: BANK 0
part B text: BANK 1

## A3P030-1QN132I
designator U?
ProASIC3 Flash Family FPGA, 81 User IOs, 30K System Gates, 1 Kbit ProASIC3 Flash ROM, 132-Pin QFN, Industrial Grade; DatasheetVersion: v1.3, Oct-2009; PackageVersion: ver11.2, Nov-2009; PackageReference: QN132; PackageDescription: 132-Pin Quad Flat Pack No-Leads (QN132); ComponentLink1Description: Manufacturer URL; ComponentLink1URL: http://www.actel.com/; ComponentLink2Description: ProASIC3 Datasheet; ComponentLink2URL: http://www.actel.com/documents/PA3_DS.pdf; ComponentLink3Description: Package Mechanical Drawings; ComponentLink3URL: http://www.actel.com/documents/PckgMechDrwngs.pdf; ComponentLink4Description: ProASIC3 Documents; ComponentLink4URL: http://www.actel.com/products/pa3/docs.aspx
footprint QN132 (QFN, 137-Leads, Body 8x8mm, Pitch 0.5mm, Thermal Pad 4.7x4.7mm)
part A pins: A26 IO44RSB0 (io), A28 IO43RSB0 (io), A29 IO42RSB0 (io), A30 IO40RSB0 (io), A31 IO39RSB0 (io), A32 GDC0/IO36RSB0 (io), A35 IO34RSB0 (io), A36 IO31RSB0 (io), A37 IO26RSB0 (io), A38 IO23RSB0 (io), A40 IO22RSB0 (io), A41 IO20RSB0 (io), A42 IO18RSB0 (io), A44 IO15RSB0 (io), A45 IO12RSB0 (io), A46 IO10RSB0 (io), A47 IO09RSB0 (io), A48 IO06RSB0 (io), B24 IO45RSB0 (io), B27 IO41RSB0 (io), B29 GDA0/IO37RSB0 (io), B32 IO33RSB0 (io), B33 IO30RSB0 (io), B34 IO27RSB0 (io), B35 IO24RSB0 (io), B37 IO21RSB0 (io), B38 IO19RSB0 (io), B40 IO16RSB0 (io), B41 IO13RSB0 (io), B43 IO08RSB0 (io), B44 IO05RSB0 (io), C26 GDB0/IO38RSB0 (io), C29 IO32RSB0 (io), C30 IO29RSB0 (io), C31 IO28RSB0 (io), C32 IO25RSB0 (io), C36 IO17RSB0 (io), C37 IO14RSB0 (io), C38 IO11RSB0 (io), C39 IO07RSB0 (io), C40 IO04RSB0 (io)
part B pins: A1 IO01RSB1 (io), A2 IO81RSB1 (io), A4 IO80RSB1 (io), A5 GEC0/IO77RSB1 (io), A7 GEB0/IO75RSB1 (io), A8 IO73RSB1 (io), A11 IO71RSB1 (io), A12 IO68RSB1 (io), A13 IO63RSB1 (io), A14 IO60RSB1 (io), A16 IO59RSB1 (io), A17 IO57RSB1 (io), A19 IO54RSB1 (io), A20 IO52RSB1 (io), A21 IO49RSB1 (io), A22 IO48RSB1 (io), A23 IO47RSB1 (io), B1 IO02RSB1 (io), B2 IO82RSB1 (io), B4 IO79RSB1 (io), B7 IO74RSB1 (io), B10 IO70RSB1 (io), B11 IO67RSB1 (io), B12 IO64RSB1 (io), B13 IO61RSB1 (io), B15 IO58RSB1 (io), B16 IO56RSB1 (io), B18 IO53RSB1 (io), B19 IO50RSB1 (io), B21 IO46RSB1 (io), C1 IO03RSB1 (io), C2 IO00RSB1 (io), C4 IO78RSB1 (io), C5 GEA0/IO76RSB1 (io), C9 IO69RSB1 (io), C10 IO66RSB1 (io), C11 IO65RSB1 (io), C12 IO62RSB1 (io), C15 IO55RSB1 (io), C17 IO51RSB1 (io)
part C pins: A24 TDI (in), A25 ~{TRST} (in), B22 TMS (in), B23 TDO (out), C19 TCK (in)
part D pins: A10 VCC (power), A18 VCC (power), A34 VCC (power), A43 VCC (power), C8 VCCIB1 (power), C16 VCCIB1 (power), C21 VPUMP (power), C22 VJTAG (power), C28 VCCIB0 (power), C35 VCCIB0 (power)
part E pins: 137 Thermal Pad (power), B3 GND (power), B6 GND (power), B9 GND (power), B14 GND (power), B17 GND (power), B20 GND (power), B25 GND (power), B28 GND (power), B31 GND (power), B36 GND (power), B39 GND (power), B42 GND (power), D1 GND (power), D2 GND (power), D3 GND (power), D4 GND (power)
part F pins: A3 NC, A6 NC, A9 NC, A15 NC, A27 NC, A33 NC, A39 NC, B5 NC, B8 NC, B26 NC, B30 NC, C3 NC, C6 NC, C7 NC, C13 NC, C14 NC, C18 NC, C20 NC, C23 NC, C24 NC, C25 NC, C27 NC, C33 NC, C34 NC
part A text: BANK 0
part B text: BANK 1

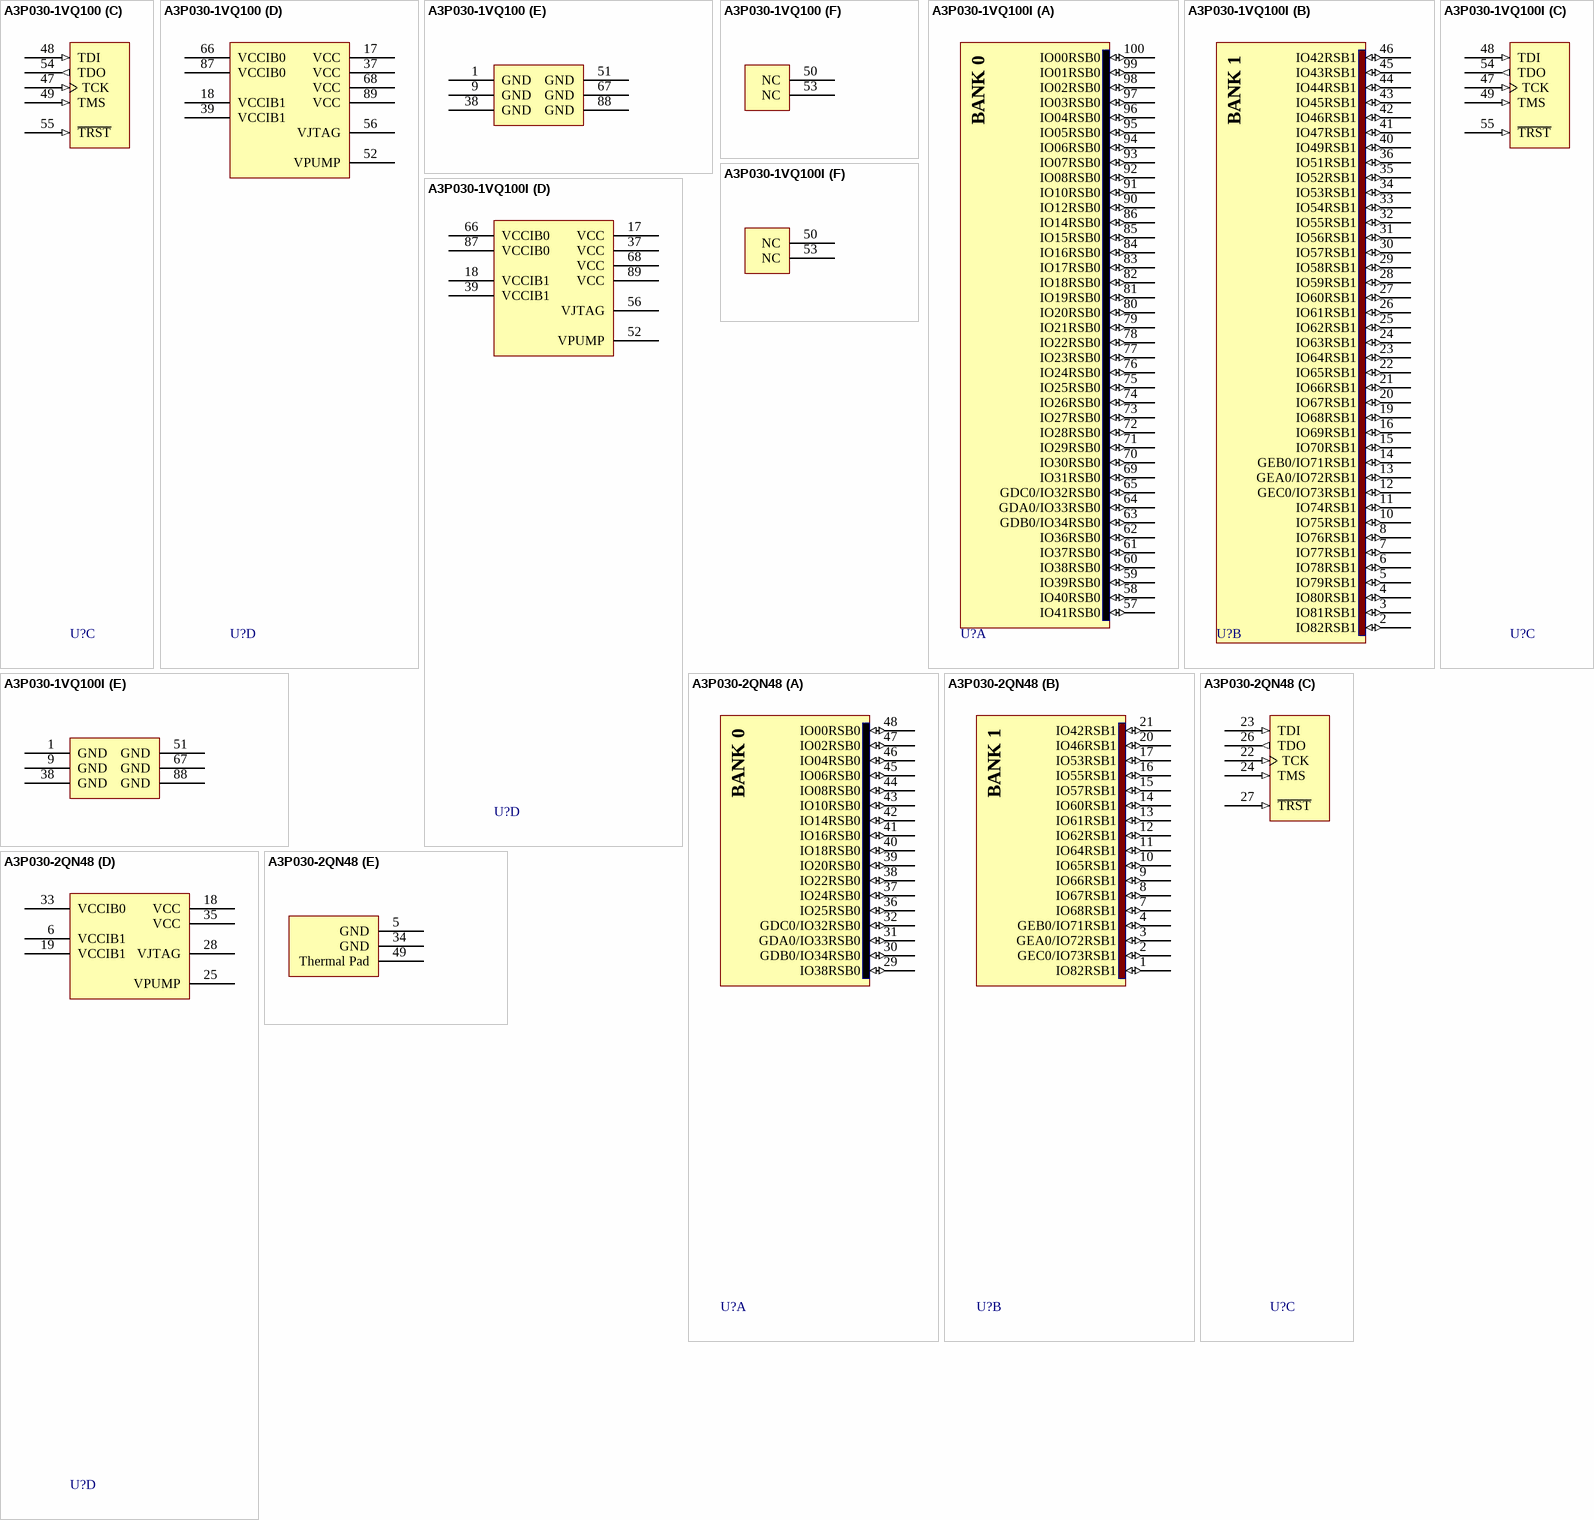
[diagram p5: symbols A3P030-1VQ100 to A3P030-2QN48]

## A3P030-1VQ100
designator U?
ProASIC3 Flash Family FPGA, 77 User IOs, 30K System Gates, 1 Kbit Flash ROM, 100-Pin VQFP, Commercial Grade; DatasheetVersion: v1.3, Oct-2009; PackageVersion: rev40, Jun-2011; PackageReference: VQ100; PackageDescription: 100-Pin Plastic Quad Flat Pack (VQ100); Code_JEDEC: MS-026-AED; ComponentLink1Description: Manufacturer URL; ComponentLink1URL: http://www.actel.com/; ComponentLink2Description: ProASIC3 Datasheet; ComponentLink2URL: http://www.actel.com/documents/PA3_DS.pdf; ComponentLink3Description: Package Mechanical Drawings; ComponentLink3URL: http://www.actel.com/documents/PckgMechDrwngs.pdf; ComponentLink4Description: ProASIC3 Documents; ComponentLink4URL: http://www.actel.com/products/pa3/docs.aspx
footprint VQ100_N (Thin QFP, 100-Leads, Body 14x14mm, Pitch 0.5mm, IPC Medium Density)
footprint VQ100_L (Thin QFP, 100-Leads, Body 14x14mm, Pitch 0.5mm, IPC High Density)
footprint VQ100_M (Thin QFP, 100-Leads, Body 14x14mm, Pitch 0.5mm, IPC Low Density)
part A pins: 57 IO41RSB0 (io), 58 IO40RSB0 (io), 59 IO39RSB0 (io), 60 IO38RSB0 (io), 61 IO37RSB0 (io), 62 IO36RSB0 (io), 63 GDB0/IO34RSB0 (io), 64 GDA0/IO33RSB0 (io), 65 GDC0/IO32RSB0 (io), 69 IO31RSB0 (io), 70 IO30RSB0 (io), 71 IO29RSB0 (io), 72 IO28RSB0 (io), 73 IO27RSB0 (io), 74 IO26RSB0 (io), 75 IO25RSB0 (io), 76 IO24RSB0 (io), 77 IO23RSB0 (io), 78 IO22RSB0 (io), 79 IO21RSB0 (io), 80 IO20RSB0 (io), 81 IO19RSB0 (io), 82 IO18RSB0 (io), 83 IO17RSB0 (io), 84 IO16RSB0 (io), 85 IO15RSB0 (io), 86 IO14RSB0 (io), 90 IO12RSB0 (io), 91 IO10RSB0 (io), 92 IO08RSB0 (io), 93 IO07RSB0 (io), 94 IO06RSB0 (io), 95 IO05RSB0 (io), 96 IO04RSB0 (io), 97 IO03RSB0 (io), 98 IO02RSB0 (io), 99 IO01RSB0 (io), 100 IO00RSB0 (io)
part B pins: 2 IO82RSB1 (io), 3 IO81RSB1 (io), 4 IO80RSB1 (io), 5 IO79RSB1 (io), 6 IO78RSB1 (io), 7 IO77RSB1 (io), 8 IO76RSB1 (io), 10 IO75RSB1 (io), 11 IO74RSB1 (io), 12 GEC0/IO73RSB1 (io), 13 GEA0/IO72RSB1 (io), 14 GEB0/IO71RSB1 (io), 15 IO70RSB1 (io), 16 IO69RSB1 (io), 19 IO68RSB1 (io), 20 IO67RSB1 (io), 21 IO66RSB1 (io), 22 IO65RSB1 (io), 23 IO64RSB1 (io), 24 IO63RSB1 (io), 25 IO62RSB1 (io), 26 IO61RSB1 (io), 27 IO60RSB1 (io), 28 IO59RSB1 (io), 29 IO58RSB1 (io), 30 IO57RSB1 (io), 31 IO56RSB1 (io), 32 IO55RSB1 (io), 33 IO54RSB1 (io), 34 IO53RSB1 (io), 35 IO52RSB1 (io), 36 IO51RSB1 (io), 40 IO49RSB1 (io), 41 IO47RSB1 (io), 42 IO46RSB1 (io), 43 IO45RSB1 (io), 44 IO44RSB1 (io), 45 IO43RSB1 (io), 46 IO42RSB1 (io)
part C pins: 47 TCK (in), 48 TDI (in), 49 TMS (in), 54 TDO (out), 55 ~{TRST} (in)
part D pins: 17 VCC (power), 18 VCCIB1 (power), 37 VCC (power), 39 VCCIB1 (power), 52 VPUMP (power), 56 VJTAG (power), 66 VCCIB0 (power), 68 VCC (power), 87 VCCIB0 (power), 89 VCC (power)
part E pins: 1 GND (power), 9 GND (power), 38 GND (power), 51 GND (power), 67 GND (power), 88 GND (power)
part F pins: 50 NC, 53 NC
part A text: BANK 0
part B text: BANK 1

## A3P030-1VQ100I
designator U?
ProASIC3 Flash Family FPGA, 77 User IOs, 30K System Gates, 1 Kbit Flash ROM, 100-Pin VQFP, Industrial Grade; DatasheetVersion: v1.3, Oct-2009; PackageVersion: rev40, Jun-2011; PackageReference: VQ100; PackageDescription: 100-Pin Plastic Quad Flat Pack (VQ100); Code_JEDEC: MS-026-AED; ComponentLink1Description: Manufacturer URL; ComponentLink1URL: http://www.actel.com/; ComponentLink2Description: ProASIC3 Datasheet; ComponentLink2URL: http://www.actel.com/documents/PA3_DS.pdf; ComponentLink3Description: Package Mechanical Drawings; ComponentLink3URL: http://www.actel.com/documents/PckgMechDrwngs.pdf; ComponentLink4Description: ProASIC3 Documents; ComponentLink4URL: http://www.actel.com/products/pa3/docs.aspx
footprint VQ100_N (Thin QFP, 100-Leads, Body 14x14mm, Pitch 0.5mm, IPC Medium Density)
footprint VQ100_L (Thin QFP, 100-Leads, Body 14x14mm, Pitch 0.5mm, IPC High Density)
footprint VQ100_M (Thin QFP, 100-Leads, Body 14x14mm, Pitch 0.5mm, IPC Low Density)
part A pins: 57 IO41RSB0 (io), 58 IO40RSB0 (io), 59 IO39RSB0 (io), 60 IO38RSB0 (io), 61 IO37RSB0 (io), 62 IO36RSB0 (io), 63 GDB0/IO34RSB0 (io), 64 GDA0/IO33RSB0 (io), 65 GDC0/IO32RSB0 (io), 69 IO31RSB0 (io), 70 IO30RSB0 (io), 71 IO29RSB0 (io), 72 IO28RSB0 (io), 73 IO27RSB0 (io), 74 IO26RSB0 (io), 75 IO25RSB0 (io), 76 IO24RSB0 (io), 77 IO23RSB0 (io), 78 IO22RSB0 (io), 79 IO21RSB0 (io), 80 IO20RSB0 (io), 81 IO19RSB0 (io), 82 IO18RSB0 (io), 83 IO17RSB0 (io), 84 IO16RSB0 (io), 85 IO15RSB0 (io), 86 IO14RSB0 (io), 90 IO12RSB0 (io), 91 IO10RSB0 (io), 92 IO08RSB0 (io), 93 IO07RSB0 (io), 94 IO06RSB0 (io), 95 IO05RSB0 (io), 96 IO04RSB0 (io), 97 IO03RSB0 (io), 98 IO02RSB0 (io), 99 IO01RSB0 (io), 100 IO00RSB0 (io)
part B pins: 2 IO82RSB1 (io), 3 IO81RSB1 (io), 4 IO80RSB1 (io), 5 IO79RSB1 (io), 6 IO78RSB1 (io), 7 IO77RSB1 (io), 8 IO76RSB1 (io), 10 IO75RSB1 (io), 11 IO74RSB1 (io), 12 GEC0/IO73RSB1 (io), 13 GEA0/IO72RSB1 (io), 14 GEB0/IO71RSB1 (io), 15 IO70RSB1 (io), 16 IO69RSB1 (io), 19 IO68RSB1 (io), 20 IO67RSB1 (io), 21 IO66RSB1 (io), 22 IO65RSB1 (io), 23 IO64RSB1 (io), 24 IO63RSB1 (io), 25 IO62RSB1 (io), 26 IO61RSB1 (io), 27 IO60RSB1 (io), 28 IO59RSB1 (io), 29 IO58RSB1 (io), 30 IO57RSB1 (io), 31 IO56RSB1 (io), 32 IO55RSB1 (io), 33 IO54RSB1 (io), 34 IO53RSB1 (io), 35 IO52RSB1 (io), 36 IO51RSB1 (io), 40 IO49RSB1 (io), 41 IO47RSB1 (io), 42 IO46RSB1 (io), 43 IO45RSB1 (io), 44 IO44RSB1 (io), 45 IO43RSB1 (io), 46 IO42RSB1 (io)
part C pins: 47 TCK (in), 48 TDI (in), 49 TMS (in), 54 TDO (out), 55 ~{TRST} (in)
part D pins: 17 VCC (power), 18 VCCIB1 (power), 37 VCC (power), 39 VCCIB1 (power), 52 VPUMP (power), 56 VJTAG (power), 66 VCCIB0 (power), 68 VCC (power), 87 VCCIB0 (power), 89 VCC (power)
part E pins: 1 GND (power), 9 GND (power), 38 GND (power), 51 GND (power), 67 GND (power), 88 GND (power)
part F pins: 50 NC, 53 NC
part A text: BANK 0
part B text: BANK 1

## A3P030-2QN48
designator U?
ProASIC3 Flash Family FPGA, 34 User IOs, 30K System Gates, 1 Kbit ProASIC3 Flash ROM, 48-Pin QFN, Commercial Grade; DatasheetVersion: v1.3, Oct-2009; PackageVersion: rev40, Jun-2011; PackageReference: QN48; PackageDescription: 48-Pin Quad Flat No-Lead 0.4 mm Pitch (QN48); Code_JEDEC: MO-220-VLLE-1; ComponentLink1Description: Manufacturer URL; ComponentLink1URL: http://www.actel.com/; ComponentLink2Description: ProASIC3 Datasheet; ComponentLink2URL: http://www.actel.com/documents/PA3_DS.pdf; ComponentLink3Description: Package Mechanical Drawings; ComponentLink3URL: http://www.actel.com/documents/PckgMechDrwngs.pdf; ComponentLink4Description: ProASIC3 Documents; ComponentLink4URL: http://www.actel.com/products/pa3/docs.aspx
footprint QN48_N (QFN, 48-Leads, Body 6x6mm, Pitch 0.4mm, Thermal Pad 4.8x4.8mm, IPC Medium Density)
footprint QN48_L (QFN, 48-Leads, Body 6x6mm, Pitch 0.4mm, Thermal Pad 4.8x4.8mm, IPC High Density)
footprint QN48_M (QFN, 48-Leads, Body 6x6mm, Pitch 0.4mm, Thermal Pad 4.8x4.8mm, IPC Low Density)
part A pins: 29 IO38RSB0 (io), 30 GDB0/IO34RSB0 (io), 31 GDA0/IO33RSB0 (io), 32 GDC0/IO32RSB0 (io), 36 IO25RSB0 (io), 37 IO24RSB0 (io), 38 IO22RSB0 (io), 39 IO20RSB0 (io), 40 IO18RSB0 (io), 41 IO16RSB0 (io), 42 IO14RSB0 (io), 43 IO10RSB0 (io), 44 IO08RSB0 (io), 45 IO06RSB0 (io), 46 IO04RSB0 (io), 47 IO02RSB0 (io), 48 IO00RSB0 (io)
part B pins: 1 IO82RSB1 (io), 2 GEC0/IO73RSB1 (io), 3 GEA0/IO72RSB1 (io), 4 GEB0/IO71RSB1 (io), 7 IO68RSB1 (io), 8 IO67RSB1 (io), 9 IO66RSB1 (io), 10 IO65RSB1 (io), 11 IO64RSB1 (io), 12 IO62RSB1 (io), 13 IO61RSB1 (io), 14 IO60RSB1 (io), 15 IO57RSB1 (io), 16 IO55RSB1 (io), 17 IO53RSB1 (io), 20 IO46RSB1 (io), 21 IO42RSB1 (io)
part C pins: 22 TCK (in), 23 TDI (in), 24 TMS (in), 26 TDO (out), 27 ~{TRST} (in)
part D pins: 6 VCCIB1 (power), 18 VCC (power), 19 VCCIB1 (power), 25 VPUMP (power), 28 VJTAG (power), 33 VCCIB0 (power), 35 VCC (power)
part E pins: 5 GND (power), 34 GND (power), 49 Thermal Pad (power)
part A text: BANK 0
part B text: BANK 1

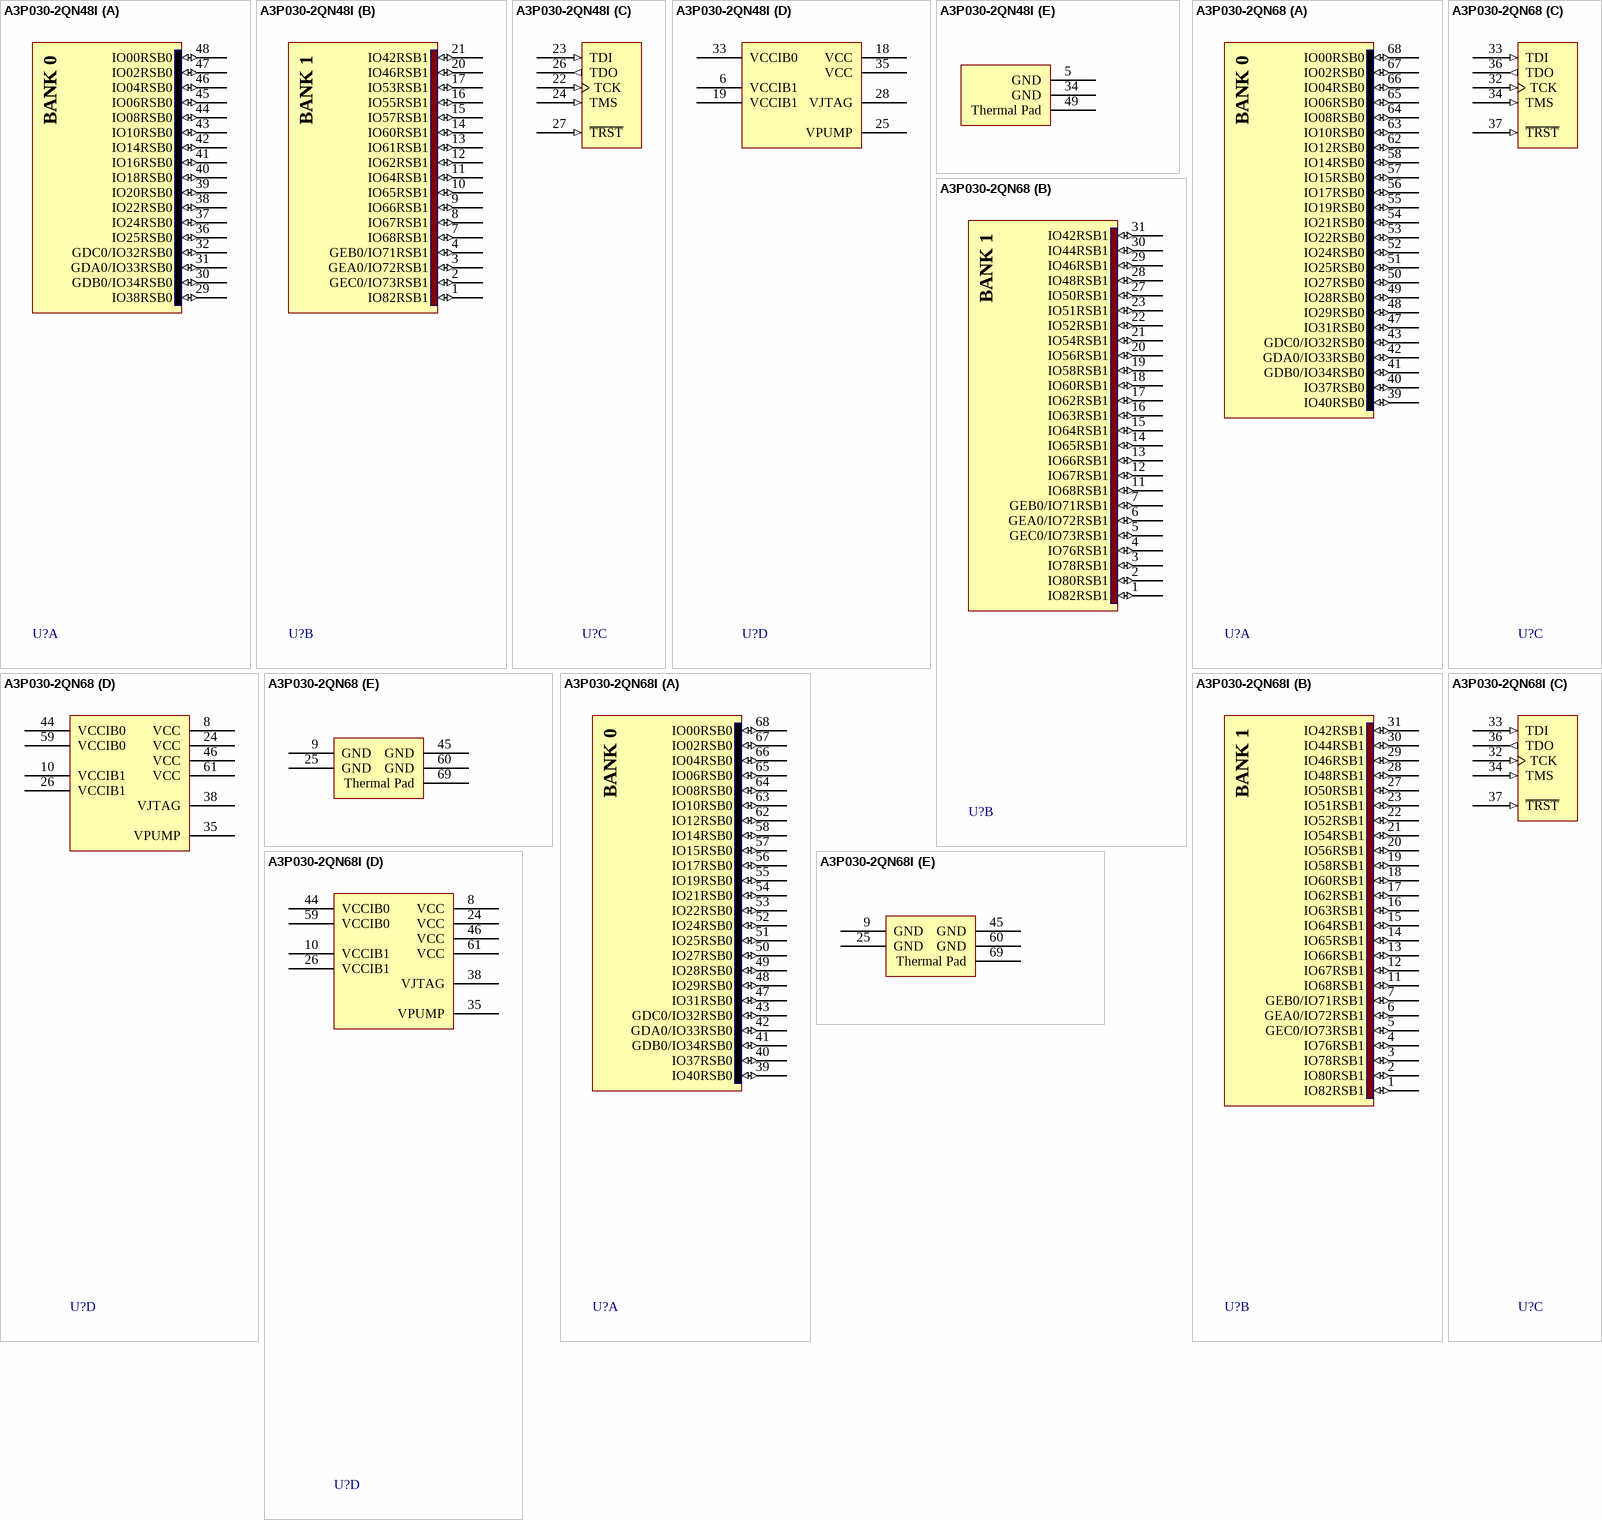
[diagram p6: symbols A3P030-2QN48I to A3P030-2QN68I]

## A3P030-2QN48I
designator U?
ProASIC3 Flash Family FPGA, 34 User IOs, 30K System Gates, 1 Kbit ProASIC3 Flash ROM, 48-Pin QFN, Industrial Grade; DatasheetVersion: v1.3, Oct-2009; PackageVersion: rev40, Jun-2011; PackageReference: QN48; PackageDescription: 48-Pin Quad Flat No-Lead 0.4 mm Pitch (QN48); Code_JEDEC: MO-220-VLLE-1; ComponentLink1Description: Manufacturer URL; ComponentLink1URL: http://www.actel.com/; ComponentLink2Description: ProASIC3 Datasheet; ComponentLink2URL: http://www.actel.com/documents/PA3_DS.pdf; ComponentLink3Description: Package Mechanical Drawings; ComponentLink3URL: http://www.actel.com/documents/PckgMechDrwngs.pdf; ComponentLink4Description: ProASIC3 Documents; ComponentLink4URL: http://www.actel.com/products/pa3/docs.aspx
footprint QN48_N (QFN, 48-Leads, Body 6x6mm, Pitch 0.4mm, Thermal Pad 4.8x4.8mm, IPC Medium Density)
footprint QN48_L (QFN, 48-Leads, Body 6x6mm, Pitch 0.4mm, Thermal Pad 4.8x4.8mm, IPC High Density)
footprint QN48_M (QFN, 48-Leads, Body 6x6mm, Pitch 0.4mm, Thermal Pad 4.8x4.8mm, IPC Low Density)
part A pins: 29 IO38RSB0 (io), 30 GDB0/IO34RSB0 (io), 31 GDA0/IO33RSB0 (io), 32 GDC0/IO32RSB0 (io), 36 IO25RSB0 (io), 37 IO24RSB0 (io), 38 IO22RSB0 (io), 39 IO20RSB0 (io), 40 IO18RSB0 (io), 41 IO16RSB0 (io), 42 IO14RSB0 (io), 43 IO10RSB0 (io), 44 IO08RSB0 (io), 45 IO06RSB0 (io), 46 IO04RSB0 (io), 47 IO02RSB0 (io), 48 IO00RSB0 (io)
part B pins: 1 IO82RSB1 (io), 2 GEC0/IO73RSB1 (io), 3 GEA0/IO72RSB1 (io), 4 GEB0/IO71RSB1 (io), 7 IO68RSB1 (io), 8 IO67RSB1 (io), 9 IO66RSB1 (io), 10 IO65RSB1 (io), 11 IO64RSB1 (io), 12 IO62RSB1 (io), 13 IO61RSB1 (io), 14 IO60RSB1 (io), 15 IO57RSB1 (io), 16 IO55RSB1 (io), 17 IO53RSB1 (io), 20 IO46RSB1 (io), 21 IO42RSB1 (io)
part C pins: 22 TCK (in), 23 TDI (in), 24 TMS (in), 26 TDO (out), 27 ~{TRST} (in)
part D pins: 6 VCCIB1 (power), 18 VCC (power), 19 VCCIB1 (power), 25 VPUMP (power), 28 VJTAG (power), 33 VCCIB0 (power), 35 VCC (power)
part E pins: 5 GND (power), 34 GND (power), 49 Thermal Pad (power)
part A text: BANK 0
part B text: BANK 1

## A3P030-2QN68
designator U?
ProASIC3 Flash Family FPGA, 49 User IOs, 30K System Gates, 1 Kbit ProASIC3 Flash ROM, 68-Pin QFN, Commercial Grade; DatasheetVersion: v1.3, Oct-2009; PackageVersion: rev40, Jun-2011; PackageReference: QN68; PackageDescription: 68-Pin Quad Flat No-Lead 0.4 mm Pitch (QN68); Code_JEDEC: MO-220-VLLE-1; ComponentLink1Description: Manufacturer URL; ComponentLink1URL: http://www.actel.com/; ComponentLink2Description: ProASIC3 Datasheet; ComponentLink2URL: http://www.actel.com/documents/PA3_DS.pdf; ComponentLink3Description: Package Mechanical Drawings; ComponentLink3URL: http://www.actel.com/documents/PckgMechDrwngs.pdf; ComponentLink4Description: ProASIC3 Documents; ComponentLink4URL: http://www.actel.com/products/pa3/docs.aspx
footprint QN68_N (QFN, 68-Leads, Body 8x8mm, Pitch 0.4mm, Thermal Pad 3.1x3.1mm, IPC Medium Density)
footprint QN68_L (QFN, 68-Leads, Body 8x8mm, Pitch 0.4mm, Thermal Pad 3.1x3.1mm, IPC High Density)
footprint QN68_M (QFN, 68-Leads, Body 8x8mm, Pitch 0.4mm, Thermal Pad 3.1x3.1mm, IPC Low Density)
part A pins: 39 IO40RSB0 (io), 40 IO37RSB0 (io), 41 GDB0/IO34RSB0 (io), 42 GDA0/IO33RSB0 (io), 43 GDC0/IO32RSB0 (io), 47 IO31RSB0 (io), 48 IO29RSB0 (io), 49 IO28RSB0 (io), 50 IO27RSB0 (io), 51 IO25RSB0 (io), 52 IO24RSB0 (io), 53 IO22RSB0 (io), 54 IO21RSB0 (io), 55 IO19RSB0 (io), 56 IO17RSB0 (io), 57 IO15RSB0 (io), 58 IO14RSB0 (io), 62 IO12RSB0 (io), 63 IO10RSB0 (io), 64 IO08RSB0 (io), 65 IO06RSB0 (io), 66 IO04RSB0 (io), 67 IO02RSB0 (io), 68 IO00RSB0 (io)
part B pins: 1 IO82RSB1 (io), 2 IO80RSB1 (io), 3 IO78RSB1 (io), 4 IO76RSB1 (io), 5 GEC0/IO73RSB1 (io), 6 GEA0/IO72RSB1 (io), 7 GEB0/IO71RSB1 (io), 11 IO68RSB1 (io), 12 IO67RSB1 (io), 13 IO66RSB1 (io), 14 IO65RSB1 (io), 15 IO64RSB1 (io), 16 IO63RSB1 (io), 17 IO62RSB1 (io), 18 IO60RSB1 (io), 19 IO58RSB1 (io), 20 IO56RSB1 (io), 21 IO54RSB1 (io), 22 IO52RSB1 (io), 23 IO51RSB1 (io), 27 IO50RSB1 (io), 28 IO48RSB1 (io), 29 IO46RSB1 (io), 30 IO44RSB1 (io), 31 IO42RSB1 (io)
part C pins: 32 TCK (in), 33 TDI (in), 34 TMS (in), 36 TDO (out), 37 ~{TRST} (in)
part D pins: 8 VCC (power), 10 VCCIB1 (power), 24 VCC (power), 26 VCCIB1 (power), 35 VPUMP (power), 38 VJTAG (power), 44 VCCIB0 (power), 46 VCC (power), 59 VCCIB0 (power), 61 VCC (power)
part E pins: 9 GND (power), 25 GND (power), 45 GND (power), 60 GND (power), 69 Thermal Pad (power)
part A text: BANK 0
part B text: BANK 1

## A3P030-2QN68I
designator U?
ProASIC3 Flash Family FPGA, 49 User IOs, 30K System Gates, 1 Kbit ProASIC3 Flash ROM, 68-Pin QFN, Industrial Grade; DatasheetVersion: v1.3, Oct-2009; PackageVersion: rev40, Jun-2011; PackageReference: QN68; PackageDescription: 68-Pin Quad Flat No-Lead 0.4 mm Pitch (QN68); Code_JEDEC: MO-220-VLLE-1; ComponentLink1Description: Manufacturer URL; ComponentLink1URL: http://www.actel.com/; ComponentLink2Description: ProASIC3 Datasheet; ComponentLink2URL: http://www.actel.com/documents/PA3_DS.pdf; ComponentLink3Description: Package Mechanical Drawings; ComponentLink3URL: http://www.actel.com/documents/PckgMechDrwngs.pdf; ComponentLink4Description: ProASIC3 Documents; ComponentLink4URL: http://www.actel.com/products/pa3/docs.aspx
footprint QN68_N (QFN, 68-Leads, Body 8x8mm, Pitch 0.4mm, Thermal Pad 3.1x3.1mm, IPC Medium Density)
footprint QN68_L (QFN, 68-Leads, Body 8x8mm, Pitch 0.4mm, Thermal Pad 3.1x3.1mm, IPC High Density)
footprint QN68_M (QFN, 68-Leads, Body 8x8mm, Pitch 0.4mm, Thermal Pad 3.1x3.1mm, IPC Low Density)
part A pins: 39 IO40RSB0 (io), 40 IO37RSB0 (io), 41 GDB0/IO34RSB0 (io), 42 GDA0/IO33RSB0 (io), 43 GDC0/IO32RSB0 (io), 47 IO31RSB0 (io), 48 IO29RSB0 (io), 49 IO28RSB0 (io), 50 IO27RSB0 (io), 51 IO25RSB0 (io), 52 IO24RSB0 (io), 53 IO22RSB0 (io), 54 IO21RSB0 (io), 55 IO19RSB0 (io), 56 IO17RSB0 (io), 57 IO15RSB0 (io), 58 IO14RSB0 (io), 62 IO12RSB0 (io), 63 IO10RSB0 (io), 64 IO08RSB0 (io), 65 IO06RSB0 (io), 66 IO04RSB0 (io), 67 IO02RSB0 (io), 68 IO00RSB0 (io)
part B pins: 1 IO82RSB1 (io), 2 IO80RSB1 (io), 3 IO78RSB1 (io), 4 IO76RSB1 (io), 5 GEC0/IO73RSB1 (io), 6 GEA0/IO72RSB1 (io), 7 GEB0/IO71RSB1 (io), 11 IO68RSB1 (io), 12 IO67RSB1 (io), 13 IO66RSB1 (io), 14 IO65RSB1 (io), 15 IO64RSB1 (io), 16 IO63RSB1 (io), 17 IO62RSB1 (io), 18 IO60RSB1 (io), 19 IO58RSB1 (io), 20 IO56RSB1 (io), 21 IO54RSB1 (io), 22 IO52RSB1 (io), 23 IO51RSB1 (io), 27 IO50RSB1 (io), 28 IO48RSB1 (io), 29 IO46RSB1 (io), 30 IO44RSB1 (io), 31 IO42RSB1 (io)
part C pins: 32 TCK (in), 33 TDI (in), 34 TMS (in), 36 TDO (out), 37 ~{TRST} (in)
part D pins: 8 VCC (power), 10 VCCIB1 (power), 24 VCC (power), 26 VCCIB1 (power), 35 VPUMP (power), 38 VJTAG (power), 44 VCCIB0 (power), 46 VCC (power), 59 VCCIB0 (power), 61 VCC (power)
part E pins: 9 GND (power), 25 GND (power), 45 GND (power), 60 GND (power), 69 Thermal Pad (power)
part A text: BANK 0
part B text: BANK 1

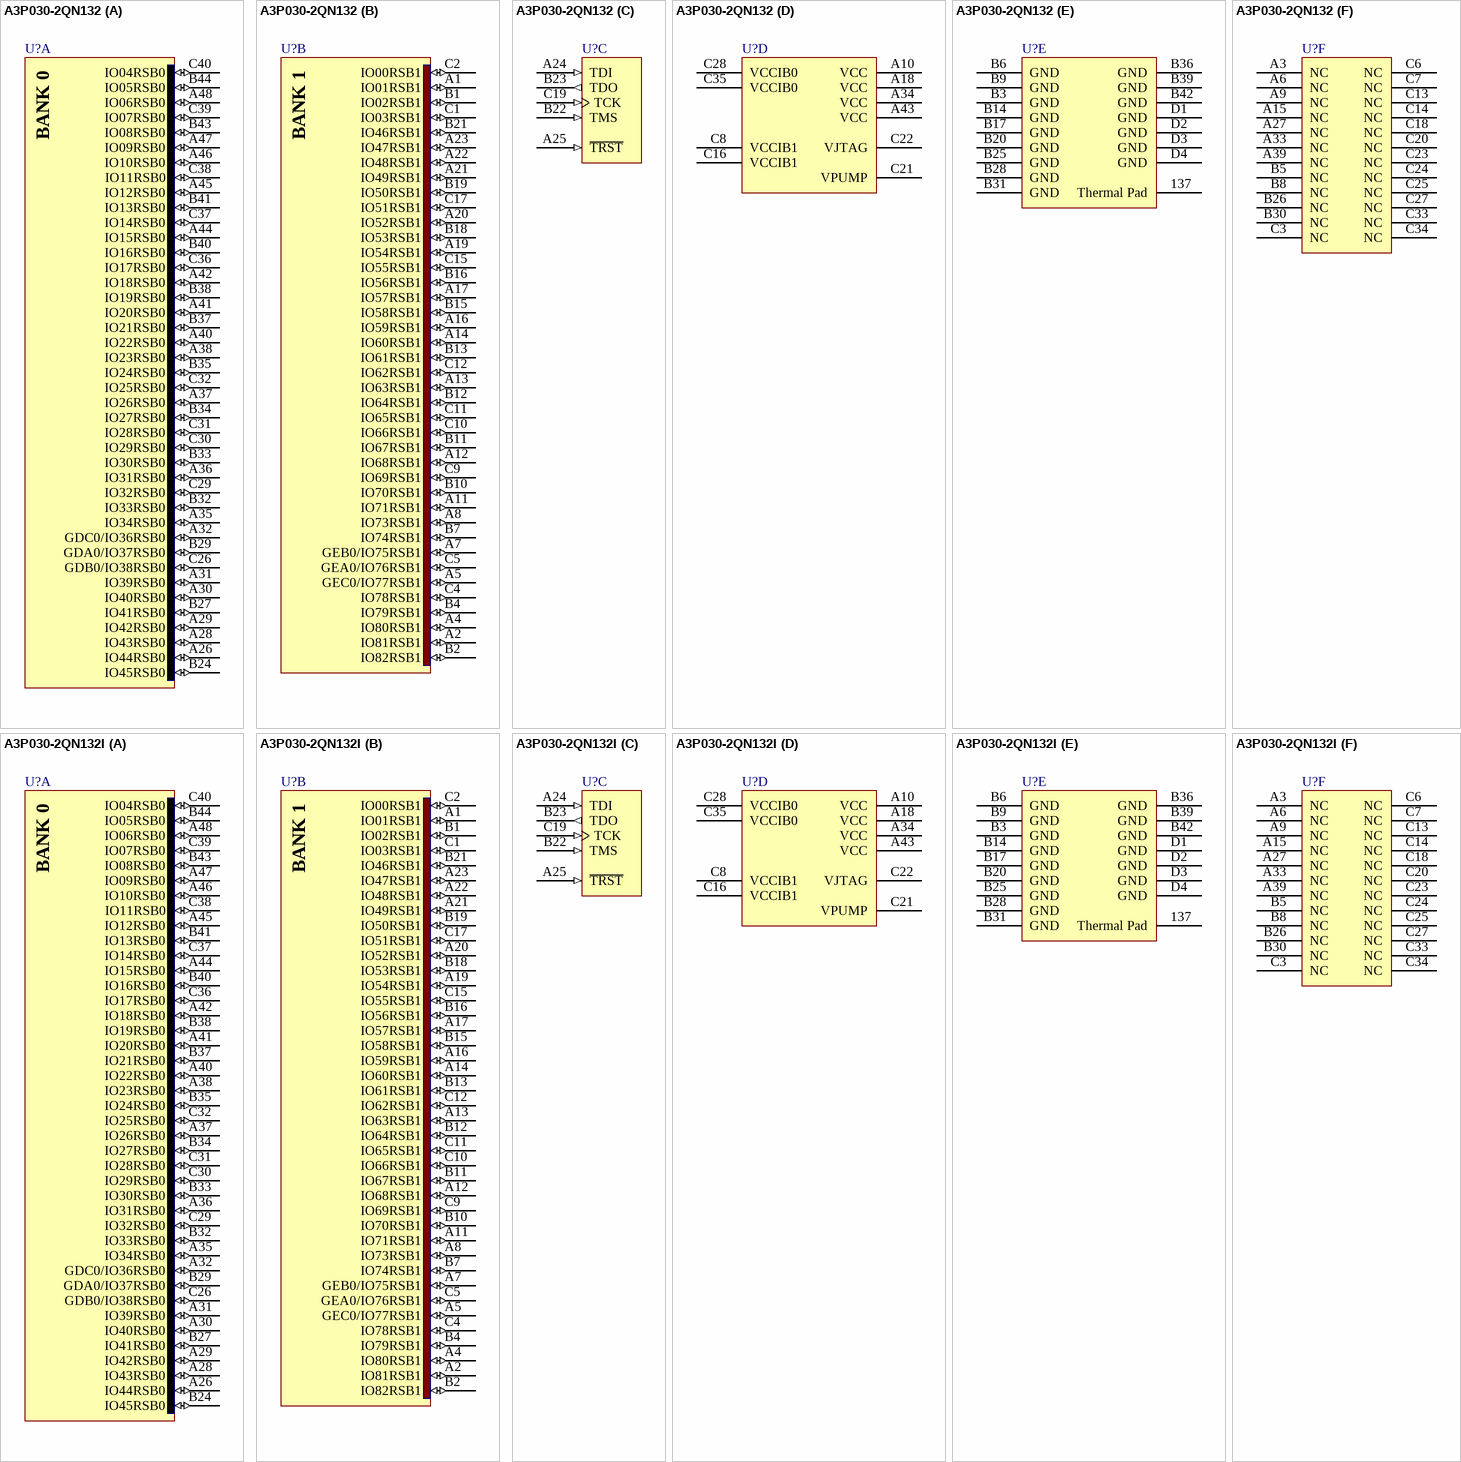
[diagram p7: symbols A3P030-2QN132 to A3P030-2QN132I]

## A3P030-2QN132
designator U?
ProASIC3 Flash Family FPGA, 81 User IOs, 30K System Gates, 1 Kbit ProASIC3 Flash ROM, 132-Pin QFN, Commercial Grade; DatasheetVersion: v1.3, Oct-2009; PackageVersion: ver11.2, Nov-2009; PackageReference: QN132; PackageDescription: 132-Pin Quad Flat Pack No-Leads (QN132); ComponentLink1Description: Manufacturer URL; ComponentLink1URL: http://www.actel.com/; ComponentLink2Description: ProASIC3 Datasheet; ComponentLink2URL: http://www.actel.com/documents/PA3_DS.pdf; ComponentLink3Description: Package Mechanical Drawings; ComponentLink3URL: http://www.actel.com/documents/PckgMechDrwngs.pdf; ComponentLink4Description: ProASIC3 Documents; ComponentLink4URL: http://www.actel.com/products/pa3/docs.aspx
footprint QN132 (QFN, 137-Leads, Body 8x8mm, Pitch 0.5mm, Thermal Pad 4.7x4.7mm)
part A pins: A26 IO44RSB0 (io), A28 IO43RSB0 (io), A29 IO42RSB0 (io), A30 IO40RSB0 (io), A31 IO39RSB0 (io), A32 GDC0/IO36RSB0 (io), A35 IO34RSB0 (io), A36 IO31RSB0 (io), A37 IO26RSB0 (io), A38 IO23RSB0 (io), A40 IO22RSB0 (io), A41 IO20RSB0 (io), A42 IO18RSB0 (io), A44 IO15RSB0 (io), A45 IO12RSB0 (io), A46 IO10RSB0 (io), A47 IO09RSB0 (io), A48 IO06RSB0 (io), B24 IO45RSB0 (io), B27 IO41RSB0 (io), B29 GDA0/IO37RSB0 (io), B32 IO33RSB0 (io), B33 IO30RSB0 (io), B34 IO27RSB0 (io), B35 IO24RSB0 (io), B37 IO21RSB0 (io), B38 IO19RSB0 (io), B40 IO16RSB0 (io), B41 IO13RSB0 (io), B43 IO08RSB0 (io), B44 IO05RSB0 (io), C26 GDB0/IO38RSB0 (io), C29 IO32RSB0 (io), C30 IO29RSB0 (io), C31 IO28RSB0 (io), C32 IO25RSB0 (io), C36 IO17RSB0 (io), C37 IO14RSB0 (io), C38 IO11RSB0 (io), C39 IO07RSB0 (io), C40 IO04RSB0 (io)
part B pins: A1 IO01RSB1 (io), A2 IO81RSB1 (io), A4 IO80RSB1 (io), A5 GEC0/IO77RSB1 (io), A7 GEB0/IO75RSB1 (io), A8 IO73RSB1 (io), A11 IO71RSB1 (io), A12 IO68RSB1 (io), A13 IO63RSB1 (io), A14 IO60RSB1 (io), A16 IO59RSB1 (io), A17 IO57RSB1 (io), A19 IO54RSB1 (io), A20 IO52RSB1 (io), A21 IO49RSB1 (io), A22 IO48RSB1 (io), A23 IO47RSB1 (io), B1 IO02RSB1 (io), B2 IO82RSB1 (io), B4 IO79RSB1 (io), B7 IO74RSB1 (io), B10 IO70RSB1 (io), B11 IO67RSB1 (io), B12 IO64RSB1 (io), B13 IO61RSB1 (io), B15 IO58RSB1 (io), B16 IO56RSB1 (io), B18 IO53RSB1 (io), B19 IO50RSB1 (io), B21 IO46RSB1 (io), C1 IO03RSB1 (io), C2 IO00RSB1 (io), C4 IO78RSB1 (io), C5 GEA0/IO76RSB1 (io), C9 IO69RSB1 (io), C10 IO66RSB1 (io), C11 IO65RSB1 (io), C12 IO62RSB1 (io), C15 IO55RSB1 (io), C17 IO51RSB1 (io)
part C pins: A24 TDI (in), A25 ~{TRST} (in), B22 TMS (in), B23 TDO (out), C19 TCK (in)
part D pins: A10 VCC (power), A18 VCC (power), A34 VCC (power), A43 VCC (power), C8 VCCIB1 (power), C16 VCCIB1 (power), C21 VPUMP (power), C22 VJTAG (power), C28 VCCIB0 (power), C35 VCCIB0 (power)
part E pins: 137 Thermal Pad (power), B3 GND (power), B6 GND (power), B9 GND (power), B14 GND (power), B17 GND (power), B20 GND (power), B25 GND (power), B28 GND (power), B31 GND (power), B36 GND (power), B39 GND (power), B42 GND (power), D1 GND (power), D2 GND (power), D3 GND (power), D4 GND (power)
part F pins: A3 NC, A6 NC, A9 NC, A15 NC, A27 NC, A33 NC, A39 NC, B5 NC, B8 NC, B26 NC, B30 NC, C3 NC, C6 NC, C7 NC, C13 NC, C14 NC, C18 NC, C20 NC, C23 NC, C24 NC, C25 NC, C27 NC, C33 NC, C34 NC
part A text: BANK 0
part B text: BANK 1